# Altium integrated library Altera Stratix GX.IntLib: 96 symbols (part 29 of 44)
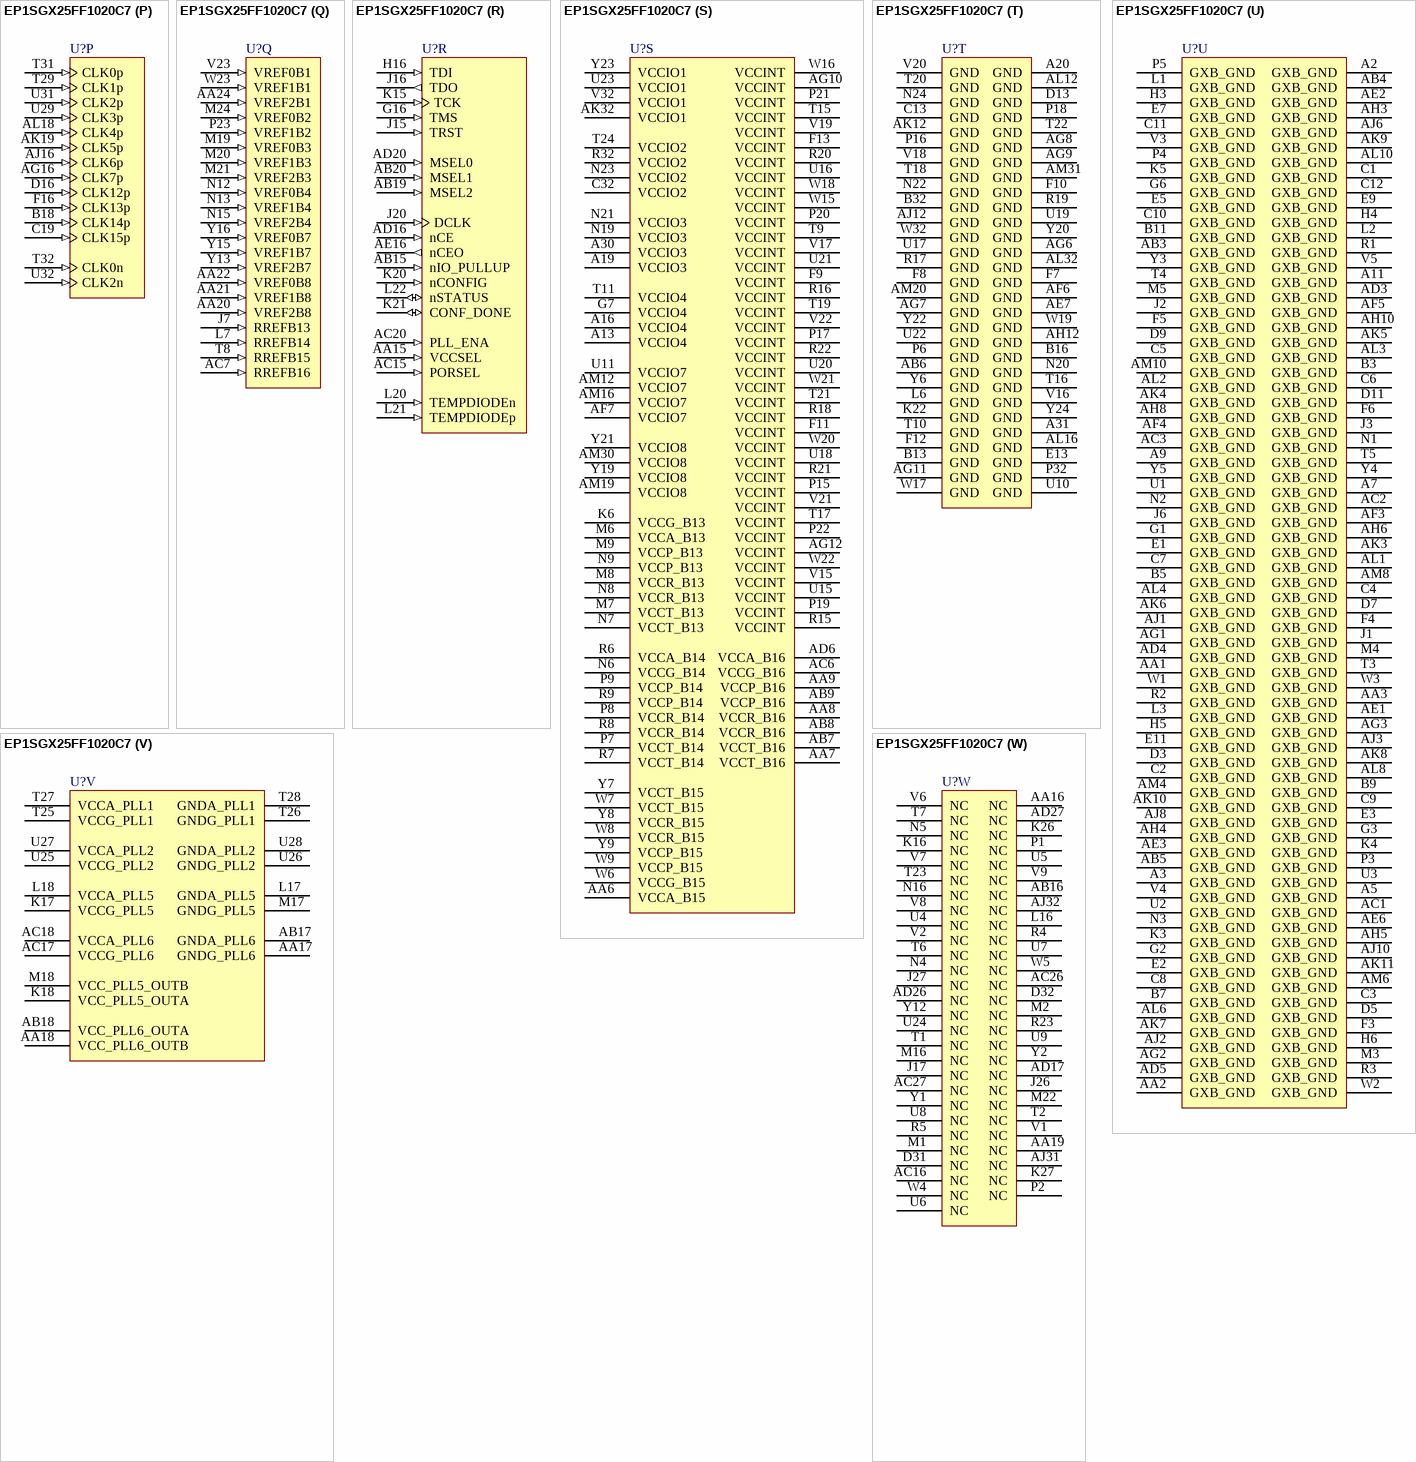
[diagram p297: symbol EP1SGX25FF1020C7]

## EP1SGX25FF1020C7
designator U?
Stratix GX 1.5V FPGA, 542 I/Os, 1020-Pin FBGA, Commercial Grade, Speed Grade 7; Published: 11-Oct-2004; LatestRevisionDate: 13-Apr-2006; LatestRevisionNote: IPC-7351 Footprint Added.; DatasheetVersion: ver1.2, Jun-2006; PackageVersion: ver15.1, May-2008; PackageReference: FBGA1020; Publisher: Altium Limited; PackageDescription: 1020-Ball FineLine Ball Grid Array (FBGA1020) - Flip Chip; Supplier 1: Digi-Key; Supplier Part Number 1: EP1SGX25FF1020C7-ND; Code_JEDEC: MS-034-AAP-1; ComponentLink1Description: Manufacturer Link; ComponentLink1URL: http://www.altera.com/products/devices/stratixgx/sgx-index.jsp; ComponentLink2Description: Handbook; ComponentLink2URL: http://www.altera.com/literature/hb/sgx/sgx_handbook.pdf; ComponentLink3Description: Packaging Specification; ComponentLink3URL: http://www.altera.com/literature/ds/dspkg.pdf
footprint FBGA1020 (BGA, 1020-Leads, Body 33x33mm, Pitch 1mm)
3D model EP1SGX25F-FBGA1020 (1020-Ball FineLine Ball Grid Array (FBGA1020) - Flip Chip)
part A pins: AA25 IO, DIFFIO_TX12p (io), AA26 IO, DIFFIO_TX12n (io), AA27 IO, DIFFIO_TX11p (io), AA28 IO, DIFFIO_TX11n (io), AB24 IO, DIFFIO_TX9p (io), AB25 IO, DIFFIO_TX9n (io), AB26 IO, DIFFIO_TX10p (io), AB27 IO, DIFFIO_TX10n (io), AB28 IO, DIFFIO_TX6p (io), AC24 IO, DIFFIO_TX8p (io), AC25 IO, DIFFIO_TX8n (io), AC28 IO, DIFFIO_TX6n (io), AD24 IO, DIFFIO_TX7p (io), AD25 IO, DIFFIO_TX7n (io), AD28 IO, DIFFIO_TX3p (io), AE24 IO, DIFFIO_TX5p (io), AE25 IO, DIFFIO_TX5n (io), AE26 IO, DIFFIO_TX4p (io), AE27 IO, DIFFIO_TX4n (io), AE28 IO, DIFFIO_TX3n (io), AF25 IO, DIFFIO_TX2p (io), AF26 IO, DIFFIO_TX2n (io), AF27 IO, DIFFIO_TX1p (io), AF28 IO, DIFFIO_TX1n (io), AG27 IO, DIFFIO_TX0p (io), AG28 IO, DIFFIO_TX0n (io), U30 IO, CLK3n (io), V24 IO, DIFFIO_TX17p (io), V25 IO, DIFFIO_TX18p (io), V26 IO, DIFFIO_TX18n (io), V27 IO, DIFFIO_TX19p (io), V28 IO, DIFFIO_TX19n (io), W24 IO, DIFFIO_TX17n (io), W25 IO, DIFFIO_TX15p (io), W26 IO, DIFFIO_TX15n (io), W27 IO, DIFFIO_TX16p (io), W28 IO, DIFFIO_TX16n (io), Y25 IO, DIFFIO_TX14p (io), Y26 IO, DIFFIO_TX14n (io), Y27 IO, DIFFIO_TX13p (io), Y28 IO, DIFFIO_TX13n (io)
part B pins: G25 IO, DIFFIO_TX37p (io), G26 IO, DIFFIO_TX37n (io), G27 IO, DIFFIO_TX38p (io), G28 IO, DIFFIO_TX38n (io), H24 IO, DIFFIO_TX34p (io), H25 IO, DIFFIO_TX34n (io), H26 IO, DIFFIO_TX35p (io), H27 IO, DIFFIO_TX35n (io), H28 IO, DIFFIO_TX36n (io), J24 IO, DIFFIO_TX32p (io), J25 IO, DIFFIO_TX32n (io), J28 IO, DIFFIO_TX36p (io), K24 IO, DIFFIO_TX31p (io), K25 IO, DIFFIO_TX31n (io), K28 IO, DIFFIO_TX33n (io), L24 IO, DIFFIO_TX30p (io), L25 IO, DIFFIO_TX30n (io), L26 IO, DIFFIO_TX29p (io), L27 IO, DIFFIO_TX29n (io), L28 IO, DIFFIO_TX33p (io), M25 IO, DIFFIO_TX28p (io), M26 IO, DIFFIO_TX28n (io), M27 IO, DIFFIO_TX27p (io), M28 IO, DIFFIO_TX27n (io), N25 IO, DIFFIO_TX26p (io), N26 IO, DIFFIO_TX26n (io), N27 IO, DIFFIO_TX25p (io), N28 IO, DIFFIO_TX25n (io), P24 IO, DIFFIO_TX23p (io), P25 IO, DIFFIO_TX24p (io), P26 IO, DIFFIO_TX24n (io), P27 IO, DIFFIO_TX22p (io), P28 IO, DIFFIO_TX22n (io), R24 IO, DIFFIO_TX23n (io), R25 IO, DIFFIO_TX20p (io), R26 IO, DIFFIO_TX20n (io), R27 IO, DIFFIO_TX21p (io), R28 IO, DIFFIO_TX21n (io), T30 IO, CLK1n (io)
part C pins: A18 IO, CLK14n (io), A21 IO, DQ6T2/DQ2T2/DQ1T2 (io), A22 IO, DQ6T3/DQ2T3/DQ1T3 (io), A23 IO, DQ7T0/DQ2T8/DQ1T8 (io), A24 IO, DQ7T4/DQ2T12/DQ1T12 (io), A25 IO, DQ8T0/DQ3T0/DQ1T16 (io), A26 IO, DQ8T3/DQ3T3/DQ1T19 (io), A27 IO, DQ9T0/DQ3T8/DQ1T24 (io), A28 IO, DQS9T/_/_ (io), A29 IO, DQ9T5/DQ3T13/DQ1T29 (io), B19 IO, CLK15n (io), B20 IO, DQ5T4/_/_ (io), B21 IO, DQS6T/DQS2T/_ (io), B22 IO, DQ6T6/DQ2T6/DQ1T6 (io), B23 IO, DQ7T1/DQ2T9/DQ1T9 (io), B24 IO, DQ7T5/DQ2T13/DQ1T13 (io), B25 IO, DQ8T1/DQ3T1/DQ1T17 (io), B26 IO, DQ8T5/DQ3T5/DQ1T21 (io), B27 IO, DQ9T1/DQ3T9/DQ1T25 (io), B28 IO, DQ9T3/DQ3T11/DQ1T27 (io), B29 IO, DQ9T6/DQ3T14/DQ1T30 (io), B30 IO (io), B31 IO (io), C20 IO, DQ5T5/_/_ (io), C21 IO, DQ6T0/DQ2T0/DQ1T0 (io), C22 IO, DQ6T4/DQ2T4/DQ1T4 (io), C23 IO, DQ7T2/DQ2T10/DQ1T10 (io), C24 IO, DQ7T6/DQ2T14/DQ1T14 (io), C25 IO, DQ8T2/DQ3T2/DQ1T18 (io), C26 IO, DQ8T6/DQ3T6/DQ1T22 (io), C27 IO, DQ9T2/DQ3T10/DQ1T26 (io), C28 IO, DQ9T4/DQ3T12/DQ1T28 (io), C29 IO, DQ9T7/DQ3T15/DQ1T31 (io), C30 IO (io), C31 IO (io), D19 IO, DQ5T3/_/_ (io), D20 IO, DQ5T6/_/_ (io), D21 IO, DQ6T1/DQ2T1/DQ1T1 (io), D22 IO, DQ6T5/DQ2T5/DQ1T5 (io), D23 IO, DQS7T/_/DQS1T (io), D24 IO, DQ7T7/DQ2T15/DQ1T15 (io), D25 IO, DQS8T/DQS3T/_ (io), D26 IO, DQ8T7/DQ3T7/DQ1T23 (io), D27 IO (io), D28 IO (io), D29 IO (io), D30 IO (io), E19 IO, DQ5T0/_/_ (io), E20 IO, DQ5T2/_/_ (io), E21 IO, DQ5T7/_/_ (io), E22 IO, DQ6T7/DQ2T7/DQ1T7 (io), E23 IO, DQ7T3/DQ2T11/DQ1T11 (io), E24 IO (io), E25 IO, DQ8T4/DQ3T4/DQ1T20 (io), E26 IO (io), E27 IO (io), E28 IO (io), E29 IO (io), E30 IO (io), F19 IO, DQ5T1/_/_ (io), F20 IO, DQS5T/_/_ (io), F21 IO, (DATA7) (io), F22 IO, (CLKUSR) (io), F23 IO (io), F24 IO (io), F25 IO (io), F26 IO (io), F27 IO (io), F28 IO (io), F29 IO (io), F30 IO (io), G20 IO, (DATA4) (io), G21 IO, RDN3 (io), G22 IO, FCLK0 (io), G23 IO (io), G24 IO (io), H20 IO, (DATA5) (io), H21 IO, RUP3 (io), H22 IO, FCLK1 (io), H23 IO (io), J21 IO, (DATA6) (io), J22 IO (io), J23 IO (io), K23 IO (io), L23 IO (io), M23 IO (io)
part D pins: A14 IO, DQ4T2/_/_ (io), A15 IO, DQ4T1/_/_ (io), B14 IO, DQS4T/_/_ (io), B15 IO, DQ4T3/_/_ (io), C14 IO, DQ4T0/_/_ (io), C15 IO, DQ4T4/_/_ (io), C16 IO, CLK12n (io), D14 IO, DQ3T1/DQ1T9/DQ0T25 (io), D15 IO, DQ4T6/_/_ (io), E14 IO, DQ3T3/DQ1T11/DQ0T27 (io), E15 IO, DQ4T7/_/_ (io), E16 IO, CLK13n (io), F14 IO, DQ3T2/DQ1T10/DQ0T26 (io), F15 IO, DQ4T5/_/_ (io), G8 IO, DQS0T/_/_ (io), G9 IO, DQ0T5/DQ0T5/DQ0T5 (io), G10 IO, DQ1T2/DQ0T10/DQ0T10 (io), G11 IO, DQ1T7/DQ0T15/DQ0T15 (io), G12 IO, DQ2T2/DQ1T2/DQ0T18 (io), G13 IO, DQ3T0/DQ1T8/DQ0T24 (io), G14 IO, DQS3T/DQS1T/_ (io), G15 IO, DQ3T6/DQ1T14/DQ0T30 (io), G17 IO (io), G18 IO (io), G19 IO, (nWS) (io), H7 IO (io), H8 IO, DQ0T6/DQ0T6/DQ0T6 (io), H9 IO, DQ0T0/DQ0T0/DQ0T0 (io), H10 IO, DQS1T/DQS0T/_ (io), H11 IO, DQ1T4/DQ0T12/DQ0T12 (io), H12 IO, DQS2T/_/DQS0T (io), H13 IO, DQ2T4/DQ1T4/DQ0T20 (io), H14 IO, DQ3T4/DQ1T12/DQ0T28 (io), H15 IO, DQ3T7/DQ1T15/DQ0T31 (io), H17 IO, (DATA0) (io), H18 IO, (DATA1) (io), H19 IO, RUP4 (io), J8 IO, DQ0T1/DQ0T1/DQ0T1 (io), J9 IO, DQ0T3/DQ0T3/DQ0T3 (io), J10 IO, DQ1T0/DQ0T8/DQ0T8 (io), J11 IO, DQ1T5/DQ0T13/DQ0T13 (io), J12 IO, DQ2T0/DQ1T0/DQ0T16 (io), J13 IO, DQ2T5/DQ1T5/DQ0T21 (io), J14 IO, DQ3T5/DQ1T13/DQ0T29 (io), J18 IO (io), J19 IO, (DATA3) (io), K7 IO (io), K8 IO, DQ0T2/DQ0T2/DQ0T2 (io), K9 IO, DQ0T4/DQ0T4/DQ0T4 (io), K10 IO, DQ1T1/DQ0T9/DQ0T9 (io), K11 IO, DQ1T3/DQ0T11/DQ0T11 (io), K12 IO, DQ2T1/DQ1T1/DQ0T17 (io), K13 IO, DQ2T7/DQ1T7/DQ0T23 (io), K14 IO, RDN4 (io), K19 IO (io), L8 IO (io), L9 IO, DQ0T7/DQ0T7/DQ0T7 (io), L10 IO (io), L11 IO, DQ1T6/DQ0T14/DQ0T14 (io), L12 IO, DQ2T3/DQ1T3/DQ0T19 (io), L13 IO, DQ2T6/DQ1T6/DQ0T22 (io), L14 IO (io), L15 IO (io), L19 IO, (DATA2) (io), M10 IO (io), M11 IO (io), M12 IO (io), M13 IO, FCLK6 (io), M14 IO, DEV_OE (io), M15 IO (io), N10 IO (io), N11 IO (io), N14 IO (io), N17 IO (io), N18 IO (io), P10 IO (io), P11 IO (io), P12 IO (io), P13 IO (io), P14 IO (io), R10 IO (io), R11 IO (io), R12 IO (io), R13 IO (io), R14 IO (io), T12 IO (io), T13 IO (io), T14 IO, FCLK7 (io), U12 IO (io)
part E pins: AA10 IO (io), AA11 IO (io), AA12 IO (io), AA13 IO (io), AA14 IO (io), AB10 IO (io), AB11 IO, DQ1B6/DQ0B14/DQ0B14 (io), AB12 IO, DQ1B5/DQ0B13/DQ0B13 (io), AB13 IO, DQ2B3/DQ1B3/DQ0B19 (io), AB14 IO (io), AC8 IO, DQ0B4/DQ0B4/DQ0B4 (io), AC9 IO, DQ0B7/DQ0B7/DQ0B7 (io), AC10 IO, DQ1B1/DQ0B9/DQ0B9 (io), AC11 IO, DQ1B3/DQ0B11/DQ0B11 (io), AC12 IO, DQ2B1/DQ1B1/DQ0B17 (io), AC13 IO, DQ2B6/DQ1B6/DQ0B22 (io), AC14 IO, RDN7 (io), AC19 IO (io), AD7 IO (io), AD8 IO, DQ0B2/DQ0B2/DQ0B2 (io), AD9 IO, DQ0B1/DQ0B1/DQ0B1 (io), AD10 IO, DQ1B0/DQ0B8/DQ0B8 (io), AD11 IO, DQS1B/DQS0B/_ (io), AD12 IO, DQ2B0/DQ1B0/DQ0B16 (io), AD13 IO, DQ2B7/DQ1B7/DQ0B23 (io), AD14 IO, DEV_CLRn (io), AD15 IO (io), AD18 IO, (PGM0) (io), AD19 IO, (INIT_DONE) (io), AE8 IO, DQ0B3/DQ0B3/DQ0B3 (io), AE9 IO, DQ0B0/DQ0B0/DQ0B0 (io), AE10 IO, DQ1B2/DQ0B10/DQ0B10 (io), AE11 IO, DQ1B4/DQ0B12/DQ0B12 (io), AE12 IO, DQS2B/_/DQS0B (io), AE13 IO, DQ2B5/DQ1B5/DQ0B21 (io), AE14 IO (io), AE15 IO (io), AE17 IO, (nRS) (io), AE18 IO (io), AE19 IO (io), AF8 IO, DQ0B6/DQ0B6/DQ0B6 (io), AF9 IO, DQS0B/_/_ (io), AF10 IO, DQ0B5/DQ0B5/DQ0B5 (io), AF11 IO, DQ1B7/DQ0B15/DQ0B15 (io), AF12 IO, DQ2B2/DQ1B2/DQ0B18 (io), AF13 IO, DQ2B4/DQ1B4/DQ0B20 (io), AF14 IO (io), AF15 IO, FCLK5 (io), AF16 IO (io), AF17 IO, (PGM1) (io), AF18 IO, (RUnLU) (io), AF19 IO, RUP7 (io), AG13 IO, DQ3B0/DQ1B8/DQ0B24 (io), AG14 IO, DQ3B7/DQ1B15/DQ0B31 (io), AG15 IO, DQ4B7/_/_ (io), AH13 IO, DQS3B/DQS1B/_ (io), AH14 IO, DQ3B6/DQ1B14/DQ0B30 (io), AH15 IO, DQ4B5/_/_ (io), AH16 IO, CLK7n (io), AJ13 IO, DQ3B2/DQ1B10/DQ0B26 (io), AJ14 IO, DQ3B3/DQ1B11/DQ0B27 (io), AJ15 IO, DQ4B6/_/_ (io), AK13 IO, DQ3B1/DQ1B9/DQ0B25 (io), AK14 IO, DQ4B0/_/_ (io), AK15 IO, DQ4B4/_/_ (io), AK16 IO, CLK6n (io), AL13 IO, DQ3B5/DQ1B13/DQ0B29 (io), AL14 IO, DQS4B/_/_ (io), AL15 IO, DQ4B3/_/_ (io), AM13 IO, DQ3B4/DQ1B12/DQ0B28 (io), AM14 IO, DQ4B2/_/_ (io), AM15 IO, DQ4B1/_/_ (io), U13 IO (io), U14 IO, FCLK4 (io), V10 IO (io), V11 IO (io), V12 IO (io), V13 IO (io), V14 IO (io), W10 IO (io), W11 IO (io), W12 IO (io), W13 IO (io), W14 IO (io), Y10 IO (io), Y11 IO (io), Y14 IO (io), Y17 IO (io), Y18 IO (io)
part F pins: AA23 IO (io), AB21 IO, (nCS) (io), AB22 IO (io), AB23 IO (io), AC21 IO, (RDYnBSY) (io), AC22 IO (io), AC23 IO (io), AD21 IO, RDN8 (io), AD22 IO (io), AD23 IO (io), AE20 IO, (CS) (io), AE21 IO (io), AE22 IO, FCLK3 (io), AE23 IO (io), AF20 IO, RUP8 (io), AF21 IO, (PGM2) (io), AF22 IO, FCLK2 (io), AF23 IO (io), AF24 IO (io), AG19 IO, DQ5B1/_/_ (io), AG20 IO, DQS5B/_/_ (io), AG21 IO (io), AG22 IO (io), AG23 IO (io), AG24 IO (io), AG25 IO (io), AG26 IO (io), AH19 IO, DQ5B0/_/_ (io), AH20 IO, DQ5B2/_/_ (io), AH21 IO, DQ5B7/_/_ (io), AH22 IO, DQ6B7/DQ2B7/DQ1B7 (io), AH23 IO, DQ7B3/DQ2B11/DQ1B11 (io), AH24 IO (io), AH25 IO, DQ8B4/DQ3B4/DQ1B20 (io), AH26 IO (io), AH27 IO (io), AH28 IO (io), AH29 IO (io), AH30 IO (io), AJ19 IO, DQ5B3/_/_ (io), AJ20 IO, DQ5B6/_/_ (io), AJ21 IO, DQ6B1/DQ2B1/DQ1B1 (io), AJ22 IO, DQ6B5/DQ2B5/DQ1B5 (io), AJ23 IO, DQS7B/_/DQS1B (io), AJ24 IO, DQ7B7/DQ2B15/DQ1B15 (io), AJ25 IO, DQS8B/DQS3B/_ (io), AJ26 IO, DQ8B7/DQ3B7/DQ1B23 (io), AJ27 IO (io), AJ28 IO (io), AJ29 IO (io), AJ30 IO (io), AK20 IO, DQ5B5/_/_ (io), AK21 IO, DQ6B0/DQ2B0/DQ1B0 (io), AK22 IO, DQ6B4/DQ2B4/DQ1B4 (io), AK23 IO, DQ7B2/DQ2B10/DQ1B10 (io), AK24 IO, DQ7B6/DQ2B14/DQ1B14 (io), AK25 IO, DQ8B2/DQ3B2/DQ1B18 (io), AK26 IO, DQ8B6/DQ3B6/DQ1B22 (io), AK27 IO, DQ9B2/DQ3B10/DQ1B26 (io), AK28 IO, DQ9B4/DQ3B12/DQ1B28 (io), AK29 IO, DQ9B7/DQ3B15/DQ1B31 (io), AK30 IO (io), AK31 IO (io), AL19 IO, CLK5n (io), AL20 IO, DQ5B4/_/_ (io), AL21 IO, DQS6B/DQS2B/_ (io), AL22 IO, DQ6B6/DQ2B6/DQ1B6 (io), AL23 IO, DQ7B1/DQ2B9/DQ1B9 (io), AL24 IO, DQ7B5/DQ2B13/DQ1B13 (io), AL25 IO, DQ8B1/DQ3B1/DQ1B17 (io), AL26 IO, DQ8B5/DQ3B5/DQ1B21 (io), AL27 IO, DQ9B1/DQ3B9/DQ1B25 (io), AL28 IO, DQ9B3/DQ3B11/DQ1B27 (io), AL29 IO, DQ9B6/DQ3B14/DQ1B30 (io), AL30 IO (io), AL31 IO (io), AM18 IO, CLK4n (io), AM21 IO, DQ6B2/DQ2B2/DQ1B2 (io), AM22 IO, DQ6B3/DQ2B3/DQ1B3 (io), AM23 IO, DQ7B0/DQ2B8/DQ1B8 (io), AM24 IO, DQ7B4/DQ2B12/DQ1B12 (io), AM25 IO, DQ8B0/DQ3B0/DQ1B16 (io), AM26 IO, DQ8B3/DQ3B3/DQ1B19 (io), AM27 IO, DQ9B0/DQ3B8/DQ1B24 (io), AM28 IO, DQS9B/_/_ (io), AM29 IO, DQ9B5/DQ3B13/DQ1B29 (io)
part G pins: C17 IO, PLL5_OUT1n (io), D17 IO, PLL5_OUT1p (io), E17 IO, PLL5_FBn (io), E18 IO, PLL5_OUT0n (io), F17 IO, PLL5_FBp (io), F18 IO, PLL5_OUT0p (io)
part H pins: A17 IO, PLL5_OUT2n (io), B17 IO, PLL5_OUT2p (io), C18 IO, PLL5_OUT3n (io), D18 IO, PLL5_OUT3p (io)
part I pins: AG17 IO, PLL6_FBp (io), AH17 IO, PLL6_FBn (io), AJ17 IO, PLL6_OUT1p (io), AK17 IO, PLL6_OUT1n (io), AL17 IO, PLL6_OUT0p (io), AM17 IO, PLL6_OUT0n (io)
part J pins: AG18 IO, PLL6_OUT3p (io), AH18 IO, PLL6_OUT3n (io), AJ18 IO, PLL6_OUT2p (io), AK18 IO, PLL6_OUT2n (io)
part K pins: A4 GXB_RX3p (in), A6 GXB_RX2p (in), A8 REFCLKB13p (in), A10 GXB_RX0p (in), A12 GXB_RX1p (in), B4 GXB_RX3n (in), B6 GXB_RX2n (in), B8 REFCLKB13n (in), B10 GXB_RX0n (in), B12 GXB_RX1n (in), D6 GXB_TX3p (out), D8 GXB_TX2p (out), D10 GXB_TX0p (out), D12 GXB_TX1p (out), E6 GXB_TX3n (out), E8 GXB_TX2n (out), E10 GXB_TX0n (out), E12 GXB_TX1n (out)
part L pins: B1 GXB_RX5p (in), B2 GXB_RX5n (in), D1 GXB_RX4p (in), D2 GXB_RX4n (in), D4 GXB_TX5p (out), E4 GXB_TX5n (out), F1 REFCLKB14p (in), F2 REFCLKB14n (in), G4 GXB_TX4p (out), G5 GXB_TX4n (out), H1 GXB_RX6p (in), H2 GXB_RX6n (in), J4 GXB_TX6p (out), J5 GXB_TX6n (out), K1 GXB_RX7p (in), K2 GXB_RX7n (in), L4 GXB_TX7p (out), L5 GXB_TX7n (out)
part M pins: AA4 GXB_TX9p (out), AA5 GXB_TX9n (out), AB1 GXB_RX9p (in), AB2 GXB_RX9n (in), AC4 GXB_TX8p (out), AC5 GXB_TX8n (out), AD1 GXB_RX8p (in), AD2 GXB_RX8n (in), AE4 GXB_TX10p (out), AE5 GXB_TX10n (out), AF1 REFCLKB15p (in), AF2 REFCLKB15n (in), AG4 GXB_TX11p (out), AG5 GXB_TX11n (out), AH1 GXB_RX10p (in), AH2 GXB_RX10n (in), AK1 GXB_RX11p (in), AK2 GXB_RX11n (in)
part N pins: AH7 GXB_TX12n (out), AH9 GXB_TX14n (out), AH11 GXB_TX15n (out), AJ4 GXB_TX13p (out), AJ5 GXB_TX13n (out), AJ7 GXB_TX12p (out), AJ9 GXB_TX14p (out), AJ11 GXB_TX15p (out), AL5 GXB_RX12n (in), AL7 REFCLKB16n (in), AL9 GXB_RX14n (in), AL11 GXB_RX15n (in), AM2 GXB_RX13p (in), AM3 GXB_RX13n (in), AM5 GXB_RX12p (in), AM7 REFCLKB16p (in), AM9 GXB_RX14p (in), AM11 GXB_RX15p (in)
part O pins: AA29 INPUT, DIFFIO_RX11p (in), AA30 INPUT, DIFFIO_RX11n (in), AA31 INPUT, DIFFIO_RX15p (in), AA32 INPUT, DIFFIO_RX15n (in), AB29 INPUT, DIFFIO_RX10p/RUP1 (in), AB30 INPUT, DIFFIO_RX10n/RDN1 (in), AB31 INPUT, DIFFIO_RX12p (in), AB32 INPUT, DIFFIO_RX12n (in), AC29 INPUT, DIFFIO_RX9p (in), AC30 INPUT, DIFFIO_RX9n (in), AC31 INPUT, DIFFIO_RX14p (in), AC32 INPUT, DIFFIO_RX14n (in), AD29 INPUT, DIFFIO_RX5p (in), AD30 INPUT, DIFFIO_RX5n (in), AD31 INPUT, DIFFIO_RX8p (in), AD32 INPUT, DIFFIO_RX8n (in), AE29 INPUT, DIFFIO_RX6p (in), AE30 INPUT, DIFFIO_RX6n (in), AE31 INPUT, DIFFIO_RX7p (in), AE32 INPUT, DIFFIO_RX7n (in), AF29 INPUT, DIFFIO_RX4p (in), AF30 INPUT, DIFFIO_RX4n (in), AF31 INPUT, DIFFIO_RX3p (in), AF32 INPUT, DIFFIO_RX3n (in), AG29 INPUT, DIFFIO_RX1p (in), AG30 INPUT, DIFFIO_RX1n (in), AG31 INPUT, DIFFIO_RX2p (in), AG32 INPUT, DIFFIO_RX2n (in), AH31 INPUT, DIFFIO_RX0p (in), AH32 INPUT, DIFFIO_RX0n (in), E31 INPUT, DIFFIO_RX38p (in), E32 INPUT, DIFFIO_RX38n (in), F31 INPUT, DIFFIO_RX37p (in), F32 INPUT, DIFFIO_RX37n (in), G29 INPUT, DIFFIO_RX36p (in), G30 INPUT, DIFFIO_RX36n (in), G31 INPUT, DIFFIO_RX35p (in), G32 INPUT, DIFFIO_RX35n (in), H29 INPUT, DIFFIO_RX34p (in), H30 INPUT, DIFFIO_RX34n (in), H31 INPUT, DIFFIO_RX32p (in), H32 INPUT, DIFFIO_RX32n (in), J29 INPUT, DIFFIO_RX30p (in), J30 INPUT, DIFFIO_RX30n (in), J31 INPUT, DIFFIO_RX31p (in), J32 INPUT, DIFFIO_RX31n (in), K29 INPUT, DIFFIO_RX33p (in), K30 INPUT, DIFFIO_RX33n (in), K31 INPUT, DIFFIO_RX25p (in), K32 INPUT, DIFFIO_RX25n (in), L29 INPUT, DIFFIO_RX29p/RUP2 (in), L30 INPUT, DIFFIO_RX29n/RDN2 (in), L31 INPUT, DIFFIO_RX28p (in), L32 INPUT, DIFFIO_RX28n (in), M29 INPUT, DIFFIO_RX27p (in), M30 INPUT, DIFFIO_RX27n (in), M31 INPUT, DIFFIO_RX24p (in), M32 INPUT, DIFFIO_RX24n (in), N29 INPUT, DIFFIO_RX26p (in), N30 INPUT, DIFFIO_RX26n (in), N31 INPUT, DIFFIO_RX22p (in), N32 INPUT, DIFFIO_RX22n (in), P29 INPUT, DIFFIO_RX23p (in), P30 INPUT, DIFFIO_RX23n (in), P31 INPUT, DIFFIO_RX21p (in), R29 INPUT, DIFFIO_RX20p (in), R30 INPUT, DIFFIO_RX20n (in), R31 INPUT, DIFFIO_RX21n (in), V29 INPUT, DIFFIO_RX19p (in), V30 INPUT, DIFFIO_RX19n (in), V31 INPUT, DIFFIO_RX18p (in), W29 INPUT, DIFFIO_RX16p (in), W30 INPUT, DIFFIO_RX16n (in), W31 INPUT, DIFFIO_RX18n (in), Y29 INPUT, DIFFIO_RX13p (in), Y30 INPUT, DIFFIO_RX13n (in), Y31 INPUT, DIFFIO_RX17p (in), Y32 INPUT, DIFFIO_RX17n (in)
part P pins: AG16 CLK7p (in), AJ16 CLK6p (in), AK19 CLK5p (in), AL18 CLK4p (in), B18 CLK14p (in), C19 CLK15p (in), D16 CLK12p (in), F16 CLK13p (in), T29 CLK1p (in), T31 CLK0p (in), T32 CLK0n (in), U29 CLK3p (in), U31 CLK2p (in), U32 CLK2n (in)
part Q pins: AA20 VREF2B8 (in), AA21 VREF1B8 (in), AA22 VREF0B8 (in), AA24 VREF2B1 (in), AC7 RREFB16 (in), J7 RREFB13 (in), L7 RREFB14 (in), M19 VREF0B3 (in), M20 VREF1B3 (in), M21 VREF2B3 (in), M24 VREF0B2 (in), N12 VREF0B4 (in), N13 VREF1B4 (in), N15 VREF2B4 (in), P23 VREF1B2 (in), T8 RREFB15 (in), V23 VREF0B1 (in), W23 VREF1B1 (in), Y13 VREF2B7 (in), Y15 VREF1B7 (in), Y16 VREF0B7 (in)
part R pins: AA15 VCCSEL (in), AB15 nIO_PULLUP (in), AB19 MSEL2 (in), AB20 MSEL1 (in), AC15 PORSEL (in), AC20 PLL_ENA (in), AD16 nCE (in), AD20 MSEL0 (in), AE16 nCEO (out), G16 TMS (in), H16 TDI (in), J15 TRST (in), J16 TDO (out), J20 DCLK (in), K15 TCK (in), K20 nCONFIG (in), K21 CONF_DONE (io), L20 TEMPDIODEn (in), L21 TEMPDIODEp (in), L22 nSTATUS (io)
part S pins: A13 VCCIO4 (power), A16 VCCIO4 (power), A19 VCCIO3 (power), A30 VCCIO3 (power), AA6 VCCA_B15 (power), AA7 VCCT_B16 (power), AA8 VCCR_B16 (power), AA9 VCCP_B16 (power), AB7 VCCT_B16 (power), AB8 VCCR_B16 (power), AB9 VCCP_B16 (power), AC6 VCCG_B16 (power), AD6 VCCA_B16 (power), AF7 VCCIO7 (power), AG10 VCCINT (power), AG12 VCCINT (power), AK32 VCCIO1 (power), AM12 VCCIO7 (power), AM16 VCCIO7 (power), AM19 VCCIO8 (power), AM30 VCCIO8 (power), C32 VCCIO2 (power), F9 VCCINT (power), F11 VCCINT (power), F13 VCCINT (power), G7 VCCIO4 (power), K6 VCCG_B13 (power), M6 VCCA_B13 (power), M7 VCCT_B13 (power), M8 VCCR_B13 (power), M9 VCCP_B13 (power), N6 VCCG_B14 (power), N7 VCCT_B13 (power), N8 VCCR_B13 (power), N9 VCCP_B13 (power), N19 VCCIO3 (power), N21 VCCIO3 (power), N23 VCCIO2 (power), P7 VCCT_B14 (power), P8 VCCR_B14 (power), P9 VCCP_B14 (power), P15 VCCINT (power), P17 VCCINT (power), P19 VCCINT (power), P20 VCCINT (power), P21 VCCINT (power), P22 VCCINT (power), R6 VCCA_B14 (power), R7 VCCT_B14 (power), R8 VCCR_B14 (power), R9 VCCP_B14 (power), R15 VCCINT (power), R16 VCCINT (power), R18 VCCINT (power), R20 VCCINT (power), R21 VCCINT (power), R22 VCCINT (power), R32 VCCIO2 (power), T9 VCCINT (power), T11 VCCIO4 (power), T15 VCCINT (power), T17 VCCINT (power), T19 VCCINT (power), T21 VCCINT (power), T24 VCCIO2 (power), U11 VCCIO7 (power), U15 VCCINT (power), U16 VCCINT (power), U18 VCCINT (power), U20 VCCINT (power), U21 VCCINT (power), U23 VCCIO1 (power), V15 VCCINT (power), V17 VCCINT (power), V19 VCCINT (power), V21 VCCINT (power), V22 VCCINT (power), V32 VCCIO1 (power), W6 VCCG_B15 (power), W7 VCCT_B15 (power), W8 VCCR_B15 (power), W9 VCCP_B15 (power), W15 VCCINT (power), W16 VCCINT (power), W18 VCCINT (power), W20 VCCINT (power), W21 VCCINT (power), W22 VCCINT (power), Y7 VCCT_B15 (power), Y8 VCCR_B15 (power), Y9 VCCP_B15 (power), Y19 VCCIO8 (power), Y21 VCCIO8 (power), Y23 VCCIO1 (power)
part T pins: A20 GND (power), A31 GND (power), AB6 GND (power), AE7 GND (power), AF6 GND (power), AG6 GND (power), AG7 GND (power), AG8 GND (power), AG9 GND (power), AG11 GND (power), AH12 GND (power), AJ12 GND (power), AK12 GND (power), AL12 GND (power), AL16 GND (power), AL32 GND (power), AM20 GND (power), AM31 GND (power), B13 GND (power), B16 GND (power), B32 GND (power), C13 GND (power), D13 GND (power), E13 GND (power), F7 GND (power), F8 GND (power), F10 GND (power), F12 GND (power), K22 GND (power), L6 GND (power), N20 GND (power), N22 GND (power), N24 GND (power), P6 GND (power), P16 GND (power), P18 GND (power), P32 GND (power), R17 GND (power), R19 GND (power), T10 GND (power), T16 GND (power), T18 GND (power), T20 GND (power), T22 GND (power), U10 GND (power), U17 GND (power), U19 GND (power), U22 GND (power), V16 GND (power), V18 GND (power), V20 GND (power), W17 GND (power), W19 GND (power), W32 GND (power), Y6 GND (power), Y20 GND (power), Y22 GND (power), Y24 GND (power)
part U pins: A2 GXB_GND (power), A3 GXB_GND (power), A5 GXB_GND (power), A7 GXB_GND (power), A9 GXB_GND (power), A11 GXB_GND (power), AA1 GXB_GND (power), AA2 GXB_GND (power), AA3 GXB_GND (power), AB3 GXB_GND (power), AB4 GXB_GND (power), AB5 GXB_GND (power), AC1 GXB_GND (power), AC2 GXB_GND (power), AC3 GXB_GND (power), AD3 GXB_GND (power), AD4 GXB_GND (power), AD5 GXB_GND (power), AE1 GXB_GND (power), AE2 GXB_GND (power), AE3 GXB_GND (power), AE6 GXB_GND (power), AF3 GXB_GND (power), AF4 GXB_GND (power), AF5 GXB_GND (power), AG1 GXB_GND (power), AG2 GXB_GND (power), AG3 GXB_GND (power), AH3 GXB_GND (power), AH4 GXB_GND (power), AH5 GXB_GND (power), AH6 GXB_GND (power), AH8 GXB_GND (power), AH10 GXB_GND (power), AJ1 GXB_GND (power), AJ2 GXB_GND (power), AJ3 GXB_GND (power), AJ6 GXB_GND (power), AJ8 GXB_GND (power), AJ10 GXB_GND (power), AK3 GXB_GND (power), AK4 GXB_GND (power), AK5 GXB_GND (power), AK6 GXB_GND (power), AK7 GXB_GND (power), AK8 GXB_GND (power), AK9 GXB_GND (power), AK10 GXB_GND (power), AK11 GXB_GND (power), AL1 GXB_GND (power), AL2 GXB_GND (power), AL3 GXB_GND (power), AL4 GXB_GND (power), AL6 GXB_GND (power), AL8 GXB_GND (power), AL10 GXB_GND (power), AM4 GXB_GND (power), AM6 GXB_GND (power), AM8 GXB_GND (power), AM10 GXB_GND (power), B3 GXB_GND (power), B5 GXB_GND (power), B7 GXB_GND (power), B9 GXB_GND (power), B11 GXB_GND (power), C1 GXB_GND (power), C2 GXB_GND (power), C3 GXB_GND (power), C4 GXB_GND (power), C5 GXB_GND (power), C6 GXB_GND (power), C7 GXB_GND (power), C8 GXB_GND (power), C9 GXB_GND (power), C10 GXB_GND (power), C11 GXB_GND (power), C12 GXB_GND (power), D3 GXB_GND (power), D5 GXB_GND (power), D7 GXB_GND (power), D9 GXB_GND (power), D11 GXB_GND (power), E1 GXB_GND (power), E2 GXB_GND (power), E3 GXB_GND (power), E5 GXB_GND (power), E7 GXB_GND (power), E9 GXB_GND (power), E11 GXB_GND (power), F3 GXB_GND (power), F4 GXB_GND (power), F5 GXB_GND (power), F6 GXB_GND (power), G1 GXB_GND (power), G2 GXB_GND (power), G3 GXB_GND (power), G6 GXB_GND (power), H3 GXB_GND (power), H4 GXB_GND (power), H5 GXB_GND (power), H6 GXB_GND (power), J1 GXB_GND (power), J2 GXB_GND (power), J3 GXB_GND (power), J6 GXB_GND (power), K3 GXB_GND (power), K4 GXB_GND (power), K5 GXB_GND (power), L1 GXB_GND (power), L2 GXB_GND (power), L3 GXB_GND (power), M3 GXB_GND (power), M4 GXB_GND (power), M5 GXB_GND (power), N1 GXB_GND (power), N2 GXB_GND (power), N3 GXB_GND (power), P3 GXB_GND (power), P4 GXB_GND (power), P5 GXB_GND (power), R1 GXB_GND (power), R2 GXB_GND (power), R3 GXB_GND (power), T3 GXB_GND (power), T4 GXB_GND (power), T5 GXB_GND (power), U1 GXB_GND (power), U2 GXB_GND (power), U3 GXB_GND (power), V3 GXB_GND (power), V4 GXB_GND (power), V5 GXB_GND (power), W1 GXB_GND (power), W2 GXB_GND (power), W3 GXB_GND (power), Y3 GXB_GND (power), Y4 GXB_GND (power), Y5 GXB_GND (power)
part V pins: AA17 GNDG_PLL6 (power), AA18 VCC_PLL6_OUTB (power), AB17 GNDA_PLL6 (power), AB18 VCC_PLL6_OUTA (power), AC17 VCCG_PLL6 (power), AC18 VCCA_PLL6 (power), K17 VCCG_PLL5 (power), K18 VCC_PLL5_OUTA (power), L17 GNDA_PLL5 (power), L18 VCCA_PLL5 (power), M17 GNDG_PLL5 (power), M18 VCC_PLL5_OUTB (power), T25 VCCG_PLL1 (power), T26 GNDG_PLL1 (power), T27 VCCA_PLL1 (power), T28 GNDA_PLL1 (power), U25 VCCG_PLL2 (power), U26 GNDG_PLL2 (power), U27 VCCA_PLL2 (power), U28 GNDA_PLL2 (power)
part W pins: AA16 NC, AA19 NC, AB16 NC, AC16 NC, AC26 NC, AC27 NC, AD17 NC, AD26 NC, AD27 NC, AJ31 NC, AJ32 NC, D31 NC, D32 NC, J17 NC, J26 NC, J27 NC, K16 NC, K26 NC, K27 NC, L16 NC, M1 NC, M2 NC, M16 NC, M22 NC, N4 NC, N5 NC, N16 NC, P1 NC, P2 NC, R4 NC, R5 NC, R23 NC, T1 NC, T2 NC, T6 NC, T7 NC, T23 NC, U4 NC, U5 NC, U6 NC, U7 NC, U8 NC, U9 NC, U24 NC, V1 NC, V2 NC, V6 NC, V7 NC, V8 NC, V9 NC, W4 NC, W5 NC, Y1 NC, Y2 NC, Y12 NC
part A text: BANK 1
part B text: BANK 2
part C text: BANK 3
part D text: BANK 4
part E text: BANK 7
part F text: BANK 8
part G text: BANK 9
part H text: BANK 10
part I text: BANK 11
part J text: BANK 12
part K text: BANK 13
part L text: BANK 14
part M text: BANK 15
part N text: BANK 16

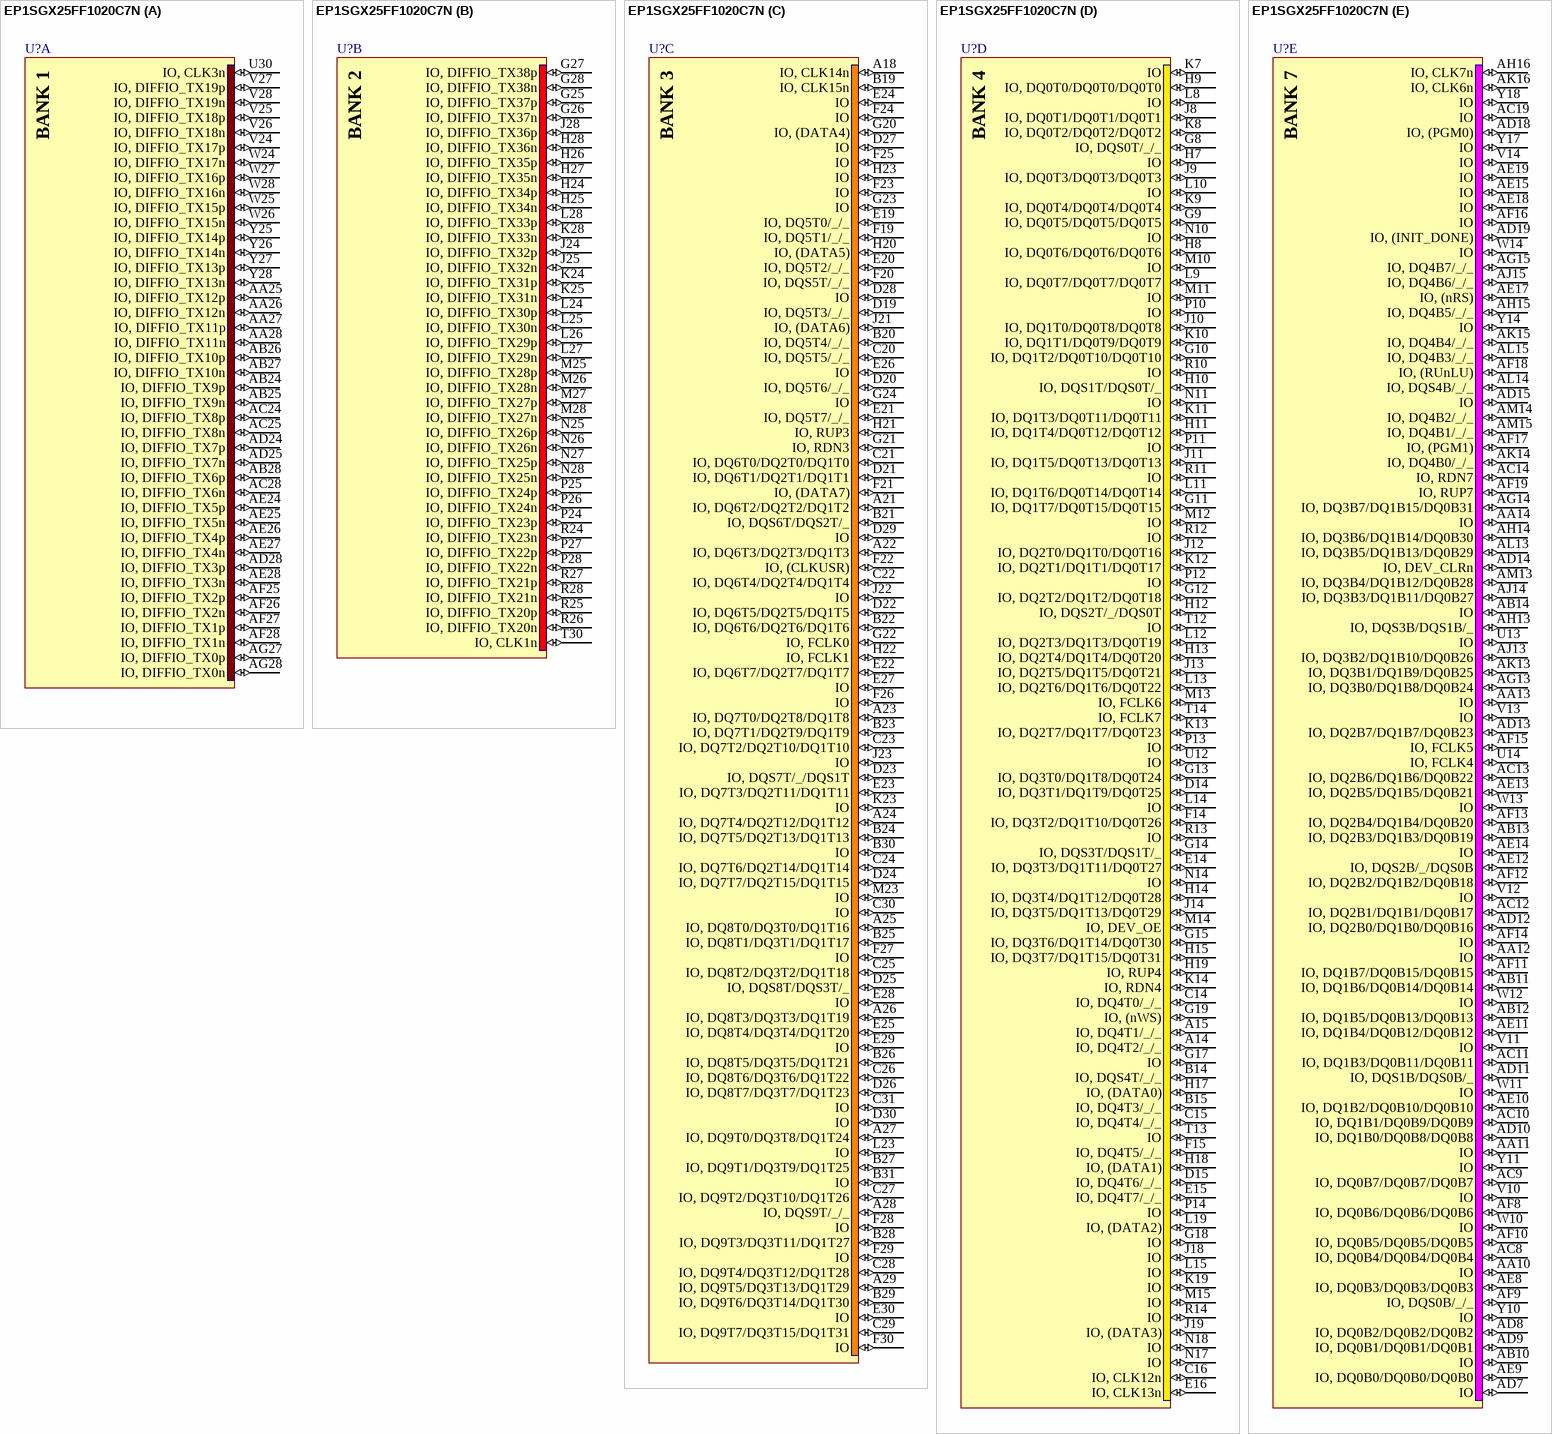
[diagram p155: symbol EP1SGX25FF1020C7N]

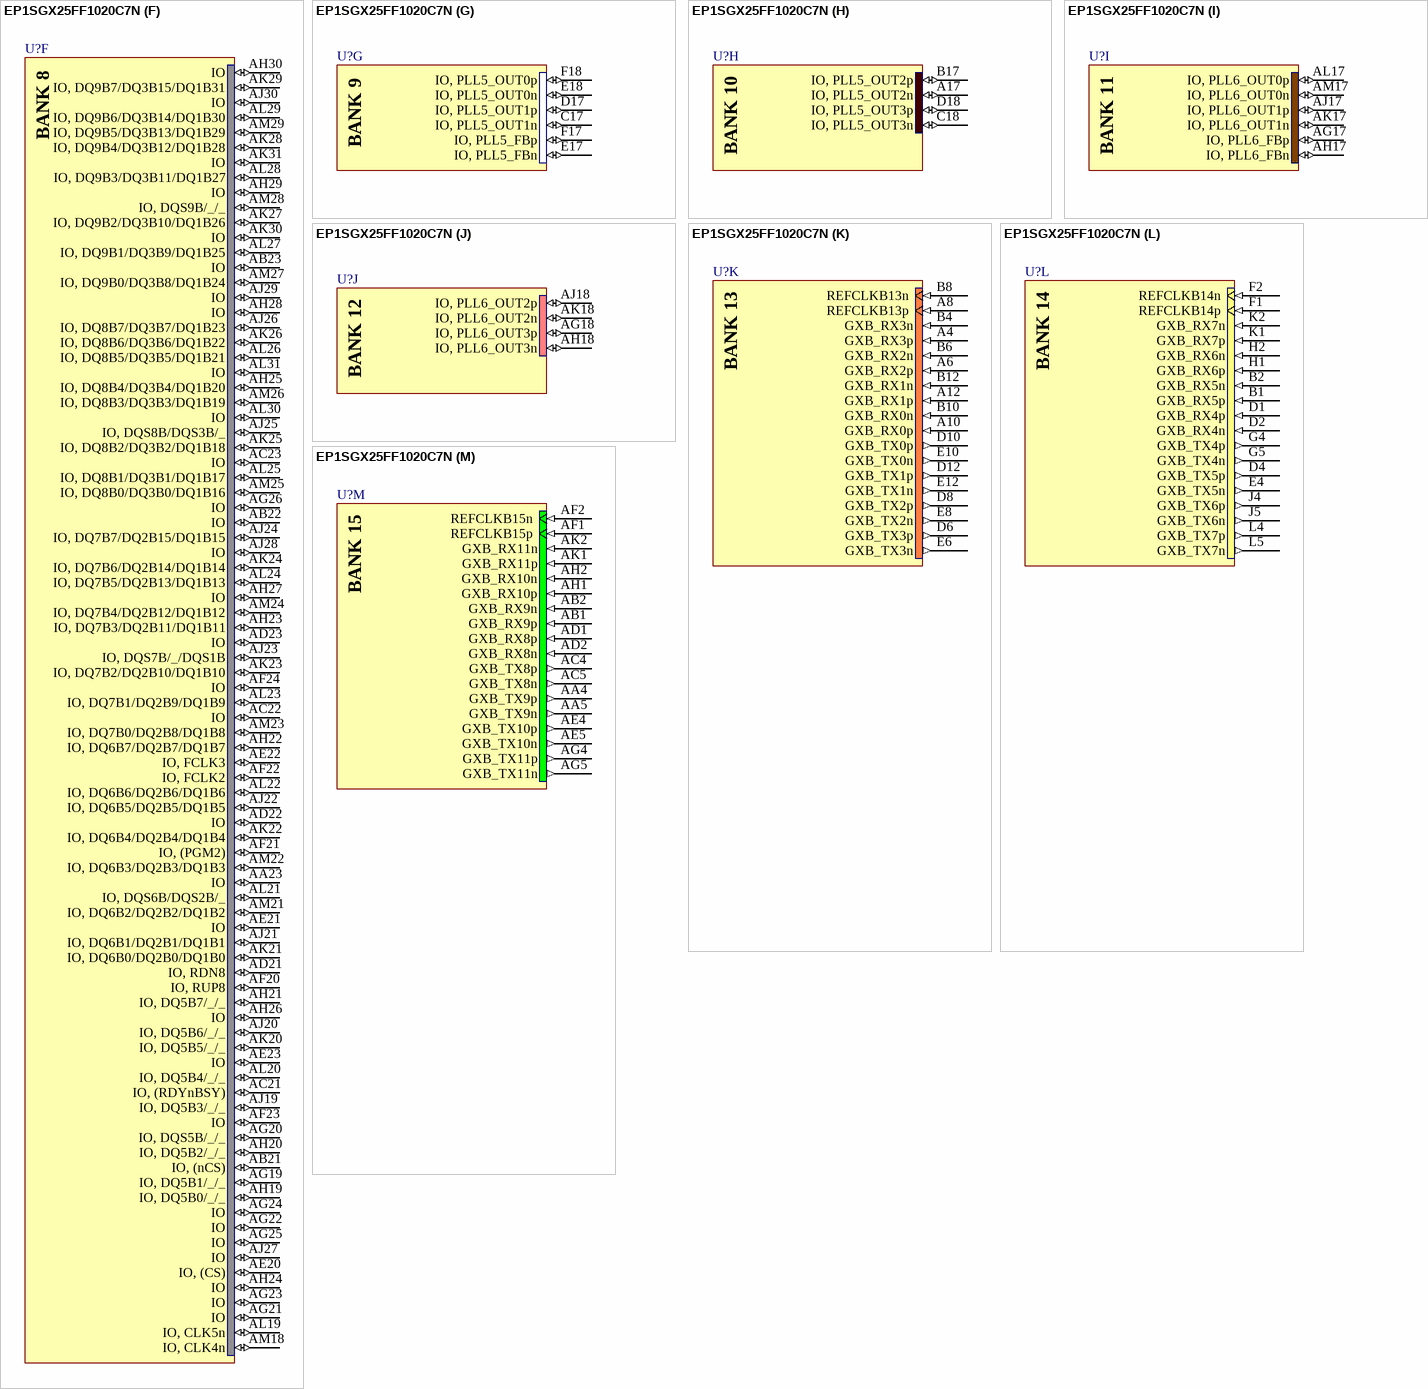
[diagram p156: symbol EP1SGX25FF1020C7N]

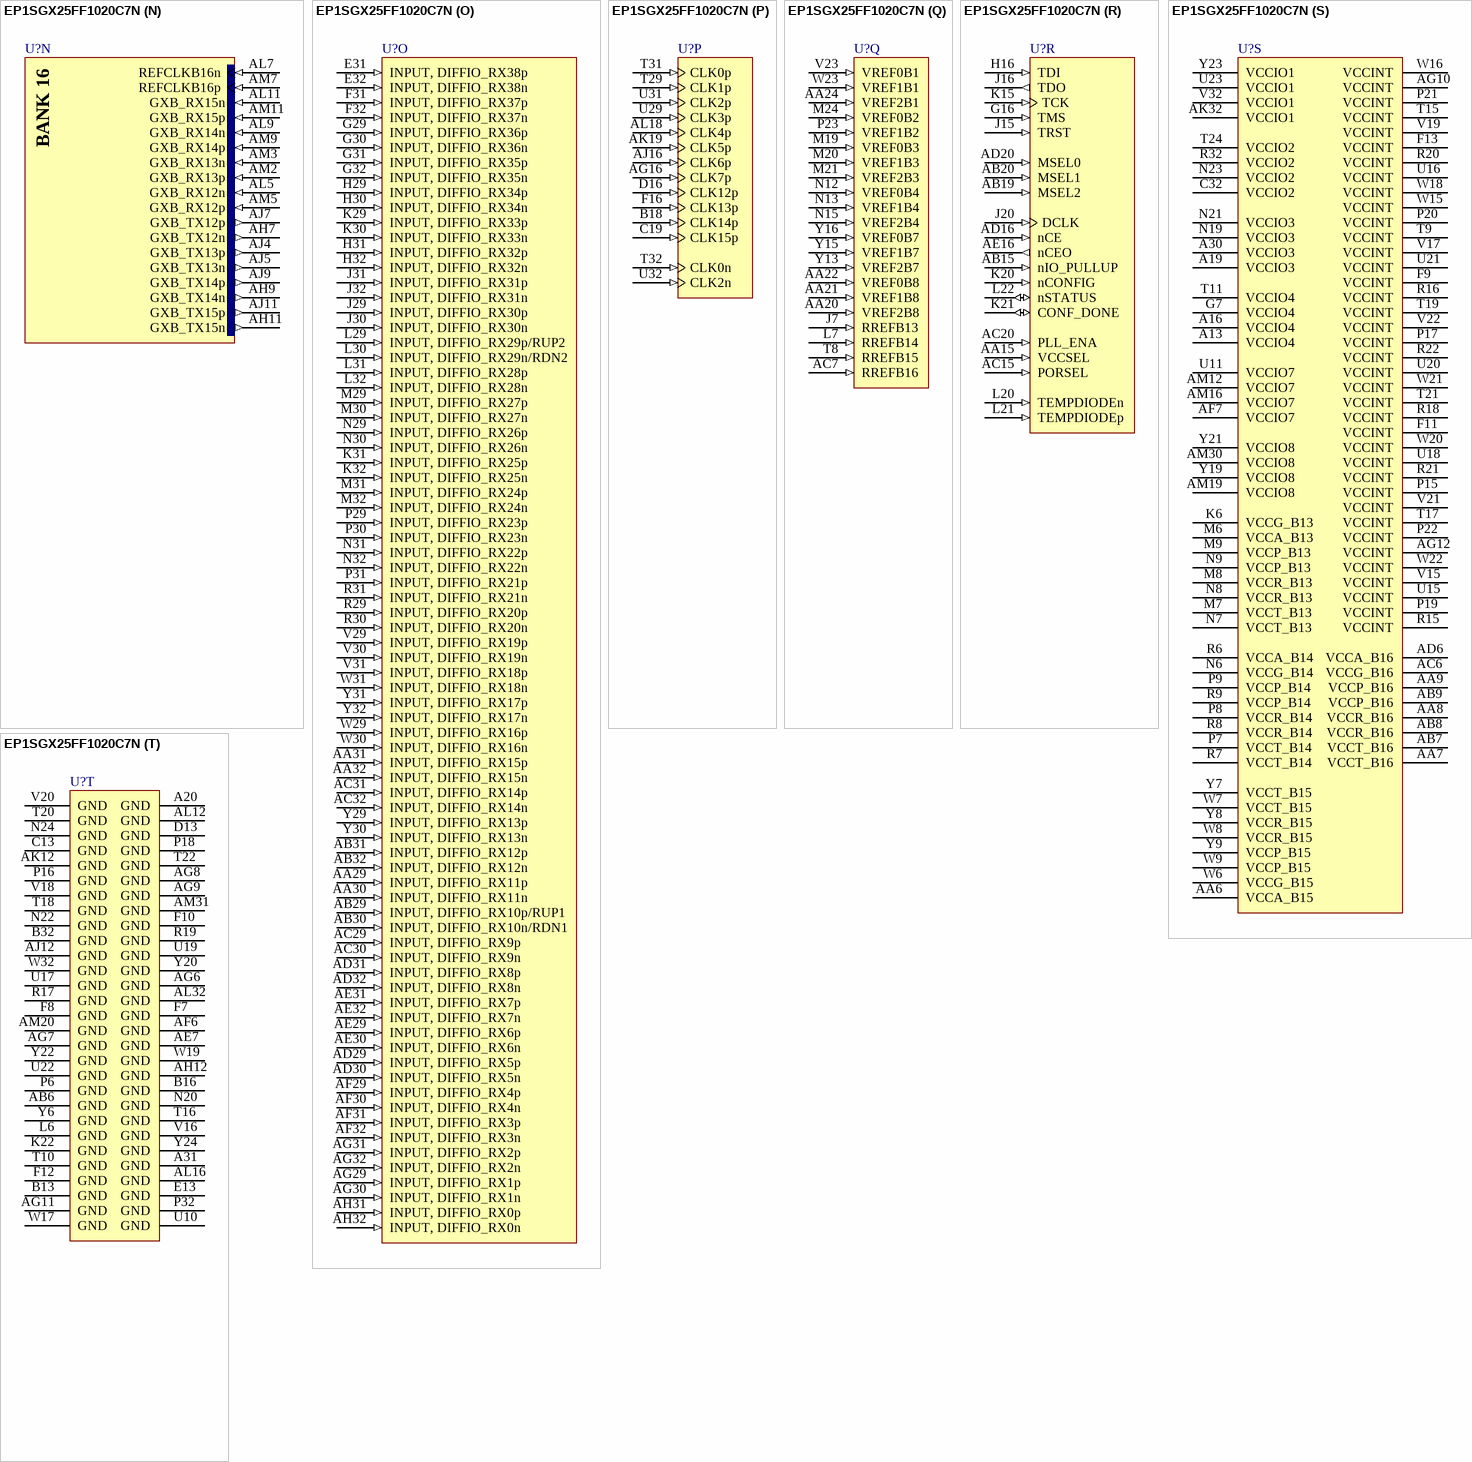
[diagram p157: symbol EP1SGX25FF1020C7N]

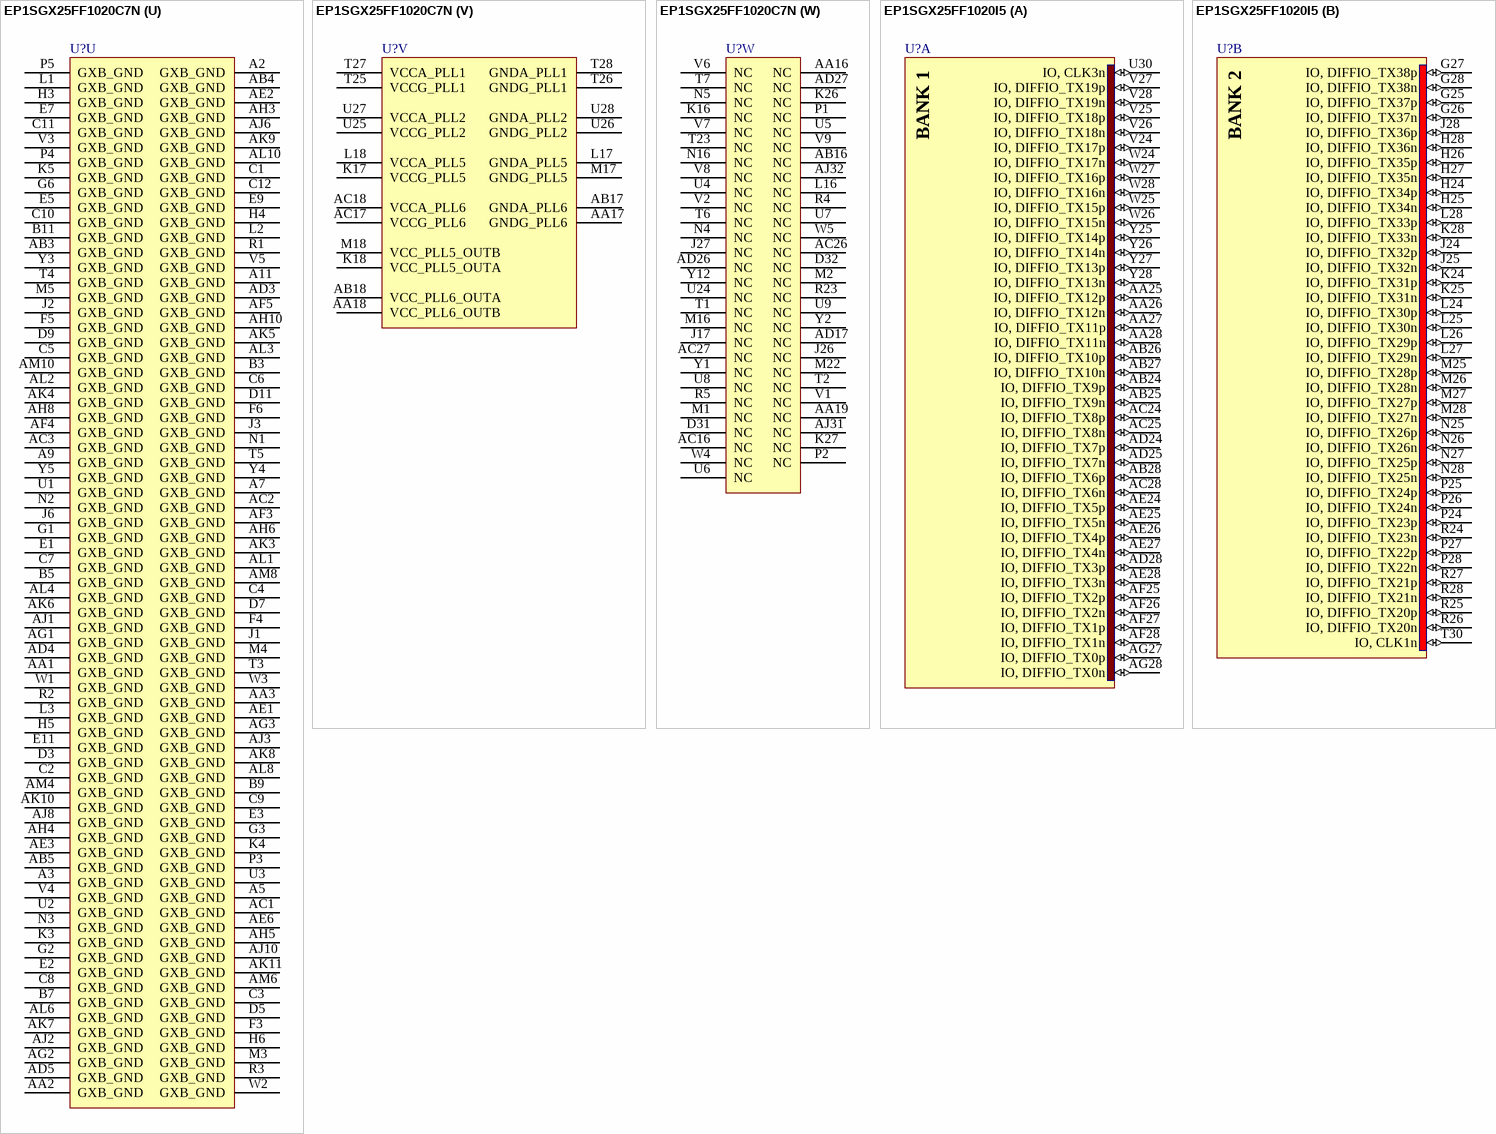
[diagram p158: symbols EP1SGX25FF1020C7N to EP1SGX25FF1020I5]

## EP1SGX25FF1020C7N
designator U?
Stratix GX 1.5V FPGA, 542 I/Os, 1020-Pin FBGA, Commercial Grade, Speed Grade 7, Pb-Free; Published: 4-Mar-2005; LatestRevisionDate: 13-Apr-2006; LatestRevisionNote: IPC-7351 Footprint Added.; DatasheetVersion: ver1.2, Jun-2006; PackageVersion: ver15.1, May-2008; PackageReference: FBGA1020; Publisher: Altium Limited; PackageDescription: 1020-Ball FineLine Ball Grid Array (FBGA1020) - Flip Chip; Supplier 1: Digi-Key; Supplier Part Number 1: EP1SGX25FF1020C7N-ND; Code_JEDEC: MS-034-AAP-1; ComponentLink1Description: Manufacturer Link; ComponentLink1URL: http://www.altera.com/products/devices/stratixgx/sgx-index.jsp; ComponentLink2Description: Handbook; ComponentLink2URL: http://www.altera.com/literature/hb/sgx/sgx_handbook.pdf; ComponentLink3Description: Packaging Specification; ComponentLink3URL: http://www.altera.com/literature/ds/dspkg.pdf
footprint FBGA1020 (BGA, 1020-Leads, Body 33x33mm, Pitch 1mm)
3D model EP1SGX25F-FBGA1020 (1020-Ball FineLine Ball Grid Array (FBGA1020) - Flip Chip)
part A pins: AA25 IO, DIFFIO_TX12p (io), AA26 IO, DIFFIO_TX12n (io), AA27 IO, DIFFIO_TX11p (io), AA28 IO, DIFFIO_TX11n (io), AB24 IO, DIFFIO_TX9p (io), AB25 IO, DIFFIO_TX9n (io), AB26 IO, DIFFIO_TX10p (io), AB27 IO, DIFFIO_TX10n (io), AB28 IO, DIFFIO_TX6p (io), AC24 IO, DIFFIO_TX8p (io), AC25 IO, DIFFIO_TX8n (io), AC28 IO, DIFFIO_TX6n (io), AD24 IO, DIFFIO_TX7p (io), AD25 IO, DIFFIO_TX7n (io), AD28 IO, DIFFIO_TX3p (io), AE24 IO, DIFFIO_TX5p (io), AE25 IO, DIFFIO_TX5n (io), AE26 IO, DIFFIO_TX4p (io), AE27 IO, DIFFIO_TX4n (io), AE28 IO, DIFFIO_TX3n (io), AF25 IO, DIFFIO_TX2p (io), AF26 IO, DIFFIO_TX2n (io), AF27 IO, DIFFIO_TX1p (io), AF28 IO, DIFFIO_TX1n (io), AG27 IO, DIFFIO_TX0p (io), AG28 IO, DIFFIO_TX0n (io), U30 IO, CLK3n (io), V24 IO, DIFFIO_TX17p (io), V25 IO, DIFFIO_TX18p (io), V26 IO, DIFFIO_TX18n (io), V27 IO, DIFFIO_TX19p (io), V28 IO, DIFFIO_TX19n (io), W24 IO, DIFFIO_TX17n (io), W25 IO, DIFFIO_TX15p (io), W26 IO, DIFFIO_TX15n (io), W27 IO, DIFFIO_TX16p (io), W28 IO, DIFFIO_TX16n (io), Y25 IO, DIFFIO_TX14p (io), Y26 IO, DIFFIO_TX14n (io), Y27 IO, DIFFIO_TX13p (io), Y28 IO, DIFFIO_TX13n (io)
part B pins: G25 IO, DIFFIO_TX37p (io), G26 IO, DIFFIO_TX37n (io), G27 IO, DIFFIO_TX38p (io), G28 IO, DIFFIO_TX38n (io), H24 IO, DIFFIO_TX34p (io), H25 IO, DIFFIO_TX34n (io), H26 IO, DIFFIO_TX35p (io), H27 IO, DIFFIO_TX35n (io), H28 IO, DIFFIO_TX36n (io), J24 IO, DIFFIO_TX32p (io), J25 IO, DIFFIO_TX32n (io), J28 IO, DIFFIO_TX36p (io), K24 IO, DIFFIO_TX31p (io), K25 IO, DIFFIO_TX31n (io), K28 IO, DIFFIO_TX33n (io), L24 IO, DIFFIO_TX30p (io), L25 IO, DIFFIO_TX30n (io), L26 IO, DIFFIO_TX29p (io), L27 IO, DIFFIO_TX29n (io), L28 IO, DIFFIO_TX33p (io), M25 IO, DIFFIO_TX28p (io), M26 IO, DIFFIO_TX28n (io), M27 IO, DIFFIO_TX27p (io), M28 IO, DIFFIO_TX27n (io), N25 IO, DIFFIO_TX26p (io), N26 IO, DIFFIO_TX26n (io), N27 IO, DIFFIO_TX25p (io), N28 IO, DIFFIO_TX25n (io), P24 IO, DIFFIO_TX23p (io), P25 IO, DIFFIO_TX24p (io), P26 IO, DIFFIO_TX24n (io), P27 IO, DIFFIO_TX22p (io), P28 IO, DIFFIO_TX22n (io), R24 IO, DIFFIO_TX23n (io), R25 IO, DIFFIO_TX20p (io), R26 IO, DIFFIO_TX20n (io), R27 IO, DIFFIO_TX21p (io), R28 IO, DIFFIO_TX21n (io), T30 IO, CLK1n (io)
part C pins: A18 IO, CLK14n (io), A21 IO, DQ6T2/DQ2T2/DQ1T2 (io), A22 IO, DQ6T3/DQ2T3/DQ1T3 (io), A23 IO, DQ7T0/DQ2T8/DQ1T8 (io), A24 IO, DQ7T4/DQ2T12/DQ1T12 (io), A25 IO, DQ8T0/DQ3T0/DQ1T16 (io), A26 IO, DQ8T3/DQ3T3/DQ1T19 (io), A27 IO, DQ9T0/DQ3T8/DQ1T24 (io), A28 IO, DQS9T/_/_ (io), A29 IO, DQ9T5/DQ3T13/DQ1T29 (io), B19 IO, CLK15n (io), B20 IO, DQ5T4/_/_ (io), B21 IO, DQS6T/DQS2T/_ (io), B22 IO, DQ6T6/DQ2T6/DQ1T6 (io), B23 IO, DQ7T1/DQ2T9/DQ1T9 (io), B24 IO, DQ7T5/DQ2T13/DQ1T13 (io), B25 IO, DQ8T1/DQ3T1/DQ1T17 (io), B26 IO, DQ8T5/DQ3T5/DQ1T21 (io), B27 IO, DQ9T1/DQ3T9/DQ1T25 (io), B28 IO, DQ9T3/DQ3T11/DQ1T27 (io), B29 IO, DQ9T6/DQ3T14/DQ1T30 (io), B30 IO (io), B31 IO (io), C20 IO, DQ5T5/_/_ (io), C21 IO, DQ6T0/DQ2T0/DQ1T0 (io), C22 IO, DQ6T4/DQ2T4/DQ1T4 (io), C23 IO, DQ7T2/DQ2T10/DQ1T10 (io), C24 IO, DQ7T6/DQ2T14/DQ1T14 (io), C25 IO, DQ8T2/DQ3T2/DQ1T18 (io), C26 IO, DQ8T6/DQ3T6/DQ1T22 (io), C27 IO, DQ9T2/DQ3T10/DQ1T26 (io), C28 IO, DQ9T4/DQ3T12/DQ1T28 (io), C29 IO, DQ9T7/DQ3T15/DQ1T31 (io), C30 IO (io), C31 IO (io), D19 IO, DQ5T3/_/_ (io), D20 IO, DQ5T6/_/_ (io), D21 IO, DQ6T1/DQ2T1/DQ1T1 (io), D22 IO, DQ6T5/DQ2T5/DQ1T5 (io), D23 IO, DQS7T/_/DQS1T (io), D24 IO, DQ7T7/DQ2T15/DQ1T15 (io), D25 IO, DQS8T/DQS3T/_ (io), D26 IO, DQ8T7/DQ3T7/DQ1T23 (io), D27 IO (io), D28 IO (io), D29 IO (io), D30 IO (io), E19 IO, DQ5T0/_/_ (io), E20 IO, DQ5T2/_/_ (io), E21 IO, DQ5T7/_/_ (io), E22 IO, DQ6T7/DQ2T7/DQ1T7 (io), E23 IO, DQ7T3/DQ2T11/DQ1T11 (io), E24 IO (io), E25 IO, DQ8T4/DQ3T4/DQ1T20 (io), E26 IO (io), E27 IO (io), E28 IO (io), E29 IO (io), E30 IO (io), F19 IO, DQ5T1/_/_ (io), F20 IO, DQS5T/_/_ (io), F21 IO, (DATA7) (io), F22 IO, (CLKUSR) (io), F23 IO (io), F24 IO (io), F25 IO (io), F26 IO (io), F27 IO (io), F28 IO (io), F29 IO (io), F30 IO (io), G20 IO, (DATA4) (io), G21 IO, RDN3 (io), G22 IO, FCLK0 (io), G23 IO (io), G24 IO (io), H20 IO, (DATA5) (io), H21 IO, RUP3 (io), H22 IO, FCLK1 (io), H23 IO (io), J21 IO, (DATA6) (io), J22 IO (io), J23 IO (io), K23 IO (io), L23 IO (io), M23 IO (io)
part D pins: A14 IO, DQ4T2/_/_ (io), A15 IO, DQ4T1/_/_ (io), B14 IO, DQS4T/_/_ (io), B15 IO, DQ4T3/_/_ (io), C14 IO, DQ4T0/_/_ (io), C15 IO, DQ4T4/_/_ (io), C16 IO, CLK12n (io), D14 IO, DQ3T1/DQ1T9/DQ0T25 (io), D15 IO, DQ4T6/_/_ (io), E14 IO, DQ3T3/DQ1T11/DQ0T27 (io), E15 IO, DQ4T7/_/_ (io), E16 IO, CLK13n (io), F14 IO, DQ3T2/DQ1T10/DQ0T26 (io), F15 IO, DQ4T5/_/_ (io), G8 IO, DQS0T/_/_ (io), G9 IO, DQ0T5/DQ0T5/DQ0T5 (io), G10 IO, DQ1T2/DQ0T10/DQ0T10 (io), G11 IO, DQ1T7/DQ0T15/DQ0T15 (io), G12 IO, DQ2T2/DQ1T2/DQ0T18 (io), G13 IO, DQ3T0/DQ1T8/DQ0T24 (io), G14 IO, DQS3T/DQS1T/_ (io), G15 IO, DQ3T6/DQ1T14/DQ0T30 (io), G17 IO (io), G18 IO (io), G19 IO, (nWS) (io), H7 IO (io), H8 IO, DQ0T6/DQ0T6/DQ0T6 (io), H9 IO, DQ0T0/DQ0T0/DQ0T0 (io), H10 IO, DQS1T/DQS0T/_ (io), H11 IO, DQ1T4/DQ0T12/DQ0T12 (io), H12 IO, DQS2T/_/DQS0T (io), H13 IO, DQ2T4/DQ1T4/DQ0T20 (io), H14 IO, DQ3T4/DQ1T12/DQ0T28 (io), H15 IO, DQ3T7/DQ1T15/DQ0T31 (io), H17 IO, (DATA0) (io), H18 IO, (DATA1) (io), H19 IO, RUP4 (io), J8 IO, DQ0T1/DQ0T1/DQ0T1 (io), J9 IO, DQ0T3/DQ0T3/DQ0T3 (io), J10 IO, DQ1T0/DQ0T8/DQ0T8 (io), J11 IO, DQ1T5/DQ0T13/DQ0T13 (io), J12 IO, DQ2T0/DQ1T0/DQ0T16 (io), J13 IO, DQ2T5/DQ1T5/DQ0T21 (io), J14 IO, DQ3T5/DQ1T13/DQ0T29 (io), J18 IO (io), J19 IO, (DATA3) (io), K7 IO (io), K8 IO, DQ0T2/DQ0T2/DQ0T2 (io), K9 IO, DQ0T4/DQ0T4/DQ0T4 (io), K10 IO, DQ1T1/DQ0T9/DQ0T9 (io), K11 IO, DQ1T3/DQ0T11/DQ0T11 (io), K12 IO, DQ2T1/DQ1T1/DQ0T17 (io), K13 IO, DQ2T7/DQ1T7/DQ0T23 (io), K14 IO, RDN4 (io), K19 IO (io), L8 IO (io), L9 IO, DQ0T7/DQ0T7/DQ0T7 (io), L10 IO (io), L11 IO, DQ1T6/DQ0T14/DQ0T14 (io), L12 IO, DQ2T3/DQ1T3/DQ0T19 (io), L13 IO, DQ2T6/DQ1T6/DQ0T22 (io), L14 IO (io), L15 IO (io), L19 IO, (DATA2) (io), M10 IO (io), M11 IO (io), M12 IO (io), M13 IO, FCLK6 (io), M14 IO, DEV_OE (io), M15 IO (io), N10 IO (io), N11 IO (io), N14 IO (io), N17 IO (io), N18 IO (io), P10 IO (io), P11 IO (io), P12 IO (io), P13 IO (io), P14 IO (io), R10 IO (io), R11 IO (io), R12 IO (io), R13 IO (io), R14 IO (io), T12 IO (io), T13 IO (io), T14 IO, FCLK7 (io), U12 IO (io)
part E pins: AA10 IO (io), AA11 IO (io), AA12 IO (io), AA13 IO (io), AA14 IO (io), AB10 IO (io), AB11 IO, DQ1B6/DQ0B14/DQ0B14 (io), AB12 IO, DQ1B5/DQ0B13/DQ0B13 (io), AB13 IO, DQ2B3/DQ1B3/DQ0B19 (io), AB14 IO (io), AC8 IO, DQ0B4/DQ0B4/DQ0B4 (io), AC9 IO, DQ0B7/DQ0B7/DQ0B7 (io), AC10 IO, DQ1B1/DQ0B9/DQ0B9 (io), AC11 IO, DQ1B3/DQ0B11/DQ0B11 (io), AC12 IO, DQ2B1/DQ1B1/DQ0B17 (io), AC13 IO, DQ2B6/DQ1B6/DQ0B22 (io), AC14 IO, RDN7 (io), AC19 IO (io), AD7 IO (io), AD8 IO, DQ0B2/DQ0B2/DQ0B2 (io), AD9 IO, DQ0B1/DQ0B1/DQ0B1 (io), AD10 IO, DQ1B0/DQ0B8/DQ0B8 (io), AD11 IO, DQS1B/DQS0B/_ (io), AD12 IO, DQ2B0/DQ1B0/DQ0B16 (io), AD13 IO, DQ2B7/DQ1B7/DQ0B23 (io), AD14 IO, DEV_CLRn (io), AD15 IO (io), AD18 IO, (PGM0) (io), AD19 IO, (INIT_DONE) (io), AE8 IO, DQ0B3/DQ0B3/DQ0B3 (io), AE9 IO, DQ0B0/DQ0B0/DQ0B0 (io), AE10 IO, DQ1B2/DQ0B10/DQ0B10 (io), AE11 IO, DQ1B4/DQ0B12/DQ0B12 (io), AE12 IO, DQS2B/_/DQS0B (io), AE13 IO, DQ2B5/DQ1B5/DQ0B21 (io), AE14 IO (io), AE15 IO (io), AE17 IO, (nRS) (io), AE18 IO (io), AE19 IO (io), AF8 IO, DQ0B6/DQ0B6/DQ0B6 (io), AF9 IO, DQS0B/_/_ (io), AF10 IO, DQ0B5/DQ0B5/DQ0B5 (io), AF11 IO, DQ1B7/DQ0B15/DQ0B15 (io), AF12 IO, DQ2B2/DQ1B2/DQ0B18 (io), AF13 IO, DQ2B4/DQ1B4/DQ0B20 (io), AF14 IO (io), AF15 IO, FCLK5 (io), AF16 IO (io), AF17 IO, (PGM1) (io), AF18 IO, (RUnLU) (io), AF19 IO, RUP7 (io), AG13 IO, DQ3B0/DQ1B8/DQ0B24 (io), AG14 IO, DQ3B7/DQ1B15/DQ0B31 (io), AG15 IO, DQ4B7/_/_ (io), AH13 IO, DQS3B/DQS1B/_ (io), AH14 IO, DQ3B6/DQ1B14/DQ0B30 (io), AH15 IO, DQ4B5/_/_ (io), AH16 IO, CLK7n (io), AJ13 IO, DQ3B2/DQ1B10/DQ0B26 (io), AJ14 IO, DQ3B3/DQ1B11/DQ0B27 (io), AJ15 IO, DQ4B6/_/_ (io), AK13 IO, DQ3B1/DQ1B9/DQ0B25 (io), AK14 IO, DQ4B0/_/_ (io), AK15 IO, DQ4B4/_/_ (io), AK16 IO, CLK6n (io), AL13 IO, DQ3B5/DQ1B13/DQ0B29 (io), AL14 IO, DQS4B/_/_ (io), AL15 IO, DQ4B3/_/_ (io), AM13 IO, DQ3B4/DQ1B12/DQ0B28 (io), AM14 IO, DQ4B2/_/_ (io), AM15 IO, DQ4B1/_/_ (io), U13 IO (io), U14 IO, FCLK4 (io), V10 IO (io), V11 IO (io), V12 IO (io), V13 IO (io), V14 IO (io), W10 IO (io), W11 IO (io), W12 IO (io), W13 IO (io), W14 IO (io), Y10 IO (io), Y11 IO (io), Y14 IO (io), Y17 IO (io), Y18 IO (io)
part F pins: AA23 IO (io), AB21 IO, (nCS) (io), AB22 IO (io), AB23 IO (io), AC21 IO, (RDYnBSY) (io), AC22 IO (io), AC23 IO (io), AD21 IO, RDN8 (io), AD22 IO (io), AD23 IO (io), AE20 IO, (CS) (io), AE21 IO (io), AE22 IO, FCLK3 (io), AE23 IO (io), AF20 IO, RUP8 (io), AF21 IO, (PGM2) (io), AF22 IO, FCLK2 (io), AF23 IO (io), AF24 IO (io), AG19 IO, DQ5B1/_/_ (io), AG20 IO, DQS5B/_/_ (io), AG21 IO (io), AG22 IO (io), AG23 IO (io), AG24 IO (io), AG25 IO (io), AG26 IO (io), AH19 IO, DQ5B0/_/_ (io), AH20 IO, DQ5B2/_/_ (io), AH21 IO, DQ5B7/_/_ (io), AH22 IO, DQ6B7/DQ2B7/DQ1B7 (io), AH23 IO, DQ7B3/DQ2B11/DQ1B11 (io), AH24 IO (io), AH25 IO, DQ8B4/DQ3B4/DQ1B20 (io), AH26 IO (io), AH27 IO (io), AH28 IO (io), AH29 IO (io), AH30 IO (io), AJ19 IO, DQ5B3/_/_ (io), AJ20 IO, DQ5B6/_/_ (io), AJ21 IO, DQ6B1/DQ2B1/DQ1B1 (io), AJ22 IO, DQ6B5/DQ2B5/DQ1B5 (io), AJ23 IO, DQS7B/_/DQS1B (io), AJ24 IO, DQ7B7/DQ2B15/DQ1B15 (io), AJ25 IO, DQS8B/DQS3B/_ (io), AJ26 IO, DQ8B7/DQ3B7/DQ1B23 (io), AJ27 IO (io), AJ28 IO (io), AJ29 IO (io), AJ30 IO (io), AK20 IO, DQ5B5/_/_ (io), AK21 IO, DQ6B0/DQ2B0/DQ1B0 (io), AK22 IO, DQ6B4/DQ2B4/DQ1B4 (io), AK23 IO, DQ7B2/DQ2B10/DQ1B10 (io), AK24 IO, DQ7B6/DQ2B14/DQ1B14 (io), AK25 IO, DQ8B2/DQ3B2/DQ1B18 (io), AK26 IO, DQ8B6/DQ3B6/DQ1B22 (io), AK27 IO, DQ9B2/DQ3B10/DQ1B26 (io), AK28 IO, DQ9B4/DQ3B12/DQ1B28 (io), AK29 IO, DQ9B7/DQ3B15/DQ1B31 (io), AK30 IO (io), AK31 IO (io), AL19 IO, CLK5n (io), AL20 IO, DQ5B4/_/_ (io), AL21 IO, DQS6B/DQS2B/_ (io), AL22 IO, DQ6B6/DQ2B6/DQ1B6 (io), AL23 IO, DQ7B1/DQ2B9/DQ1B9 (io), AL24 IO, DQ7B5/DQ2B13/DQ1B13 (io), AL25 IO, DQ8B1/DQ3B1/DQ1B17 (io), AL26 IO, DQ8B5/DQ3B5/DQ1B21 (io), AL27 IO, DQ9B1/DQ3B9/DQ1B25 (io), AL28 IO, DQ9B3/DQ3B11/DQ1B27 (io), AL29 IO, DQ9B6/DQ3B14/DQ1B30 (io), AL30 IO (io), AL31 IO (io), AM18 IO, CLK4n (io), AM21 IO, DQ6B2/DQ2B2/DQ1B2 (io), AM22 IO, DQ6B3/DQ2B3/DQ1B3 (io), AM23 IO, DQ7B0/DQ2B8/DQ1B8 (io), AM24 IO, DQ7B4/DQ2B12/DQ1B12 (io), AM25 IO, DQ8B0/DQ3B0/DQ1B16 (io), AM26 IO, DQ8B3/DQ3B3/DQ1B19 (io), AM27 IO, DQ9B0/DQ3B8/DQ1B24 (io), AM28 IO, DQS9B/_/_ (io), AM29 IO, DQ9B5/DQ3B13/DQ1B29 (io)
part G pins: C17 IO, PLL5_OUT1n (io), D17 IO, PLL5_OUT1p (io), E17 IO, PLL5_FBn (io), E18 IO, PLL5_OUT0n (io), F17 IO, PLL5_FBp (io), F18 IO, PLL5_OUT0p (io)
part H pins: A17 IO, PLL5_OUT2n (io), B17 IO, PLL5_OUT2p (io), C18 IO, PLL5_OUT3n (io), D18 IO, PLL5_OUT3p (io)
part I pins: AG17 IO, PLL6_FBp (io), AH17 IO, PLL6_FBn (io), AJ17 IO, PLL6_OUT1p (io), AK17 IO, PLL6_OUT1n (io), AL17 IO, PLL6_OUT0p (io), AM17 IO, PLL6_OUT0n (io)
part J pins: AG18 IO, PLL6_OUT3p (io), AH18 IO, PLL6_OUT3n (io), AJ18 IO, PLL6_OUT2p (io), AK18 IO, PLL6_OUT2n (io)
part K pins: A4 GXB_RX3p (in), A6 GXB_RX2p (in), A8 REFCLKB13p (in), A10 GXB_RX0p (in), A12 GXB_RX1p (in), B4 GXB_RX3n (in), B6 GXB_RX2n (in), B8 REFCLKB13n (in), B10 GXB_RX0n (in), B12 GXB_RX1n (in), D6 GXB_TX3p (out), D8 GXB_TX2p (out), D10 GXB_TX0p (out), D12 GXB_TX1p (out), E6 GXB_TX3n (out), E8 GXB_TX2n (out), E10 GXB_TX0n (out), E12 GXB_TX1n (out)
part L pins: B1 GXB_RX5p (in), B2 GXB_RX5n (in), D1 GXB_RX4p (in), D2 GXB_RX4n (in), D4 GXB_TX5p (out), E4 GXB_TX5n (out), F1 REFCLKB14p (in), F2 REFCLKB14n (in), G4 GXB_TX4p (out), G5 GXB_TX4n (out), H1 GXB_RX6p (in), H2 GXB_RX6n (in), J4 GXB_TX6p (out), J5 GXB_TX6n (out), K1 GXB_RX7p (in), K2 GXB_RX7n (in), L4 GXB_TX7p (out), L5 GXB_TX7n (out)
part M pins: AA4 GXB_TX9p (out), AA5 GXB_TX9n (out), AB1 GXB_RX9p (in), AB2 GXB_RX9n (in), AC4 GXB_TX8p (out), AC5 GXB_TX8n (out), AD1 GXB_RX8p (in), AD2 GXB_RX8n (in), AE4 GXB_TX10p (out), AE5 GXB_TX10n (out), AF1 REFCLKB15p (in), AF2 REFCLKB15n (in), AG4 GXB_TX11p (out), AG5 GXB_TX11n (out), AH1 GXB_RX10p (in), AH2 GXB_RX10n (in), AK1 GXB_RX11p (in), AK2 GXB_RX11n (in)
part N pins: AH7 GXB_TX12n (out), AH9 GXB_TX14n (out), AH11 GXB_TX15n (out), AJ4 GXB_TX13p (out), AJ5 GXB_TX13n (out), AJ7 GXB_TX12p (out), AJ9 GXB_TX14p (out), AJ11 GXB_TX15p (out), AL5 GXB_RX12n (in), AL7 REFCLKB16n (in), AL9 GXB_RX14n (in), AL11 GXB_RX15n (in), AM2 GXB_RX13p (in), AM3 GXB_RX13n (in), AM5 GXB_RX12p (in), AM7 REFCLKB16p (in), AM9 GXB_RX14p (in), AM11 GXB_RX15p (in)
part O pins: AA29 INPUT, DIFFIO_RX11p (in), AA30 INPUT, DIFFIO_RX11n (in), AA31 INPUT, DIFFIO_RX15p (in), AA32 INPUT, DIFFIO_RX15n (in), AB29 INPUT, DIFFIO_RX10p/RUP1 (in), AB30 INPUT, DIFFIO_RX10n/RDN1 (in), AB31 INPUT, DIFFIO_RX12p (in), AB32 INPUT, DIFFIO_RX12n (in), AC29 INPUT, DIFFIO_RX9p (in), AC30 INPUT, DIFFIO_RX9n (in), AC31 INPUT, DIFFIO_RX14p (in), AC32 INPUT, DIFFIO_RX14n (in), AD29 INPUT, DIFFIO_RX5p (in), AD30 INPUT, DIFFIO_RX5n (in), AD31 INPUT, DIFFIO_RX8p (in), AD32 INPUT, DIFFIO_RX8n (in), AE29 INPUT, DIFFIO_RX6p (in), AE30 INPUT, DIFFIO_RX6n (in), AE31 INPUT, DIFFIO_RX7p (in), AE32 INPUT, DIFFIO_RX7n (in), AF29 INPUT, DIFFIO_RX4p (in), AF30 INPUT, DIFFIO_RX4n (in), AF31 INPUT, DIFFIO_RX3p (in), AF32 INPUT, DIFFIO_RX3n (in), AG29 INPUT, DIFFIO_RX1p (in), AG30 INPUT, DIFFIO_RX1n (in), AG31 INPUT, DIFFIO_RX2p (in), AG32 INPUT, DIFFIO_RX2n (in), AH31 INPUT, DIFFIO_RX0p (in), AH32 INPUT, DIFFIO_RX0n (in), E31 INPUT, DIFFIO_RX38p (in), E32 INPUT, DIFFIO_RX38n (in), F31 INPUT, DIFFIO_RX37p (in), F32 INPUT, DIFFIO_RX37n (in), G29 INPUT, DIFFIO_RX36p (in), G30 INPUT, DIFFIO_RX36n (in), G31 INPUT, DIFFIO_RX35p (in), G32 INPUT, DIFFIO_RX35n (in), H29 INPUT, DIFFIO_RX34p (in), H30 INPUT, DIFFIO_RX34n (in), H31 INPUT, DIFFIO_RX32p (in), H32 INPUT, DIFFIO_RX32n (in), J29 INPUT, DIFFIO_RX30p (in), J30 INPUT, DIFFIO_RX30n (in), J31 INPUT, DIFFIO_RX31p (in), J32 INPUT, DIFFIO_RX31n (in), K29 INPUT, DIFFIO_RX33p (in), K30 INPUT, DIFFIO_RX33n (in), K31 INPUT, DIFFIO_RX25p (in), K32 INPUT, DIFFIO_RX25n (in), L29 INPUT, DIFFIO_RX29p/RUP2 (in), L30 INPUT, DIFFIO_RX29n/RDN2 (in), L31 INPUT, DIFFIO_RX28p (in), L32 INPUT, DIFFIO_RX28n (in), M29 INPUT, DIFFIO_RX27p (in), M30 INPUT, DIFFIO_RX27n (in), M31 INPUT, DIFFIO_RX24p (in), M32 INPUT, DIFFIO_RX24n (in), N29 INPUT, DIFFIO_RX26p (in), N30 INPUT, DIFFIO_RX26n (in), N31 INPUT, DIFFIO_RX22p (in), N32 INPUT, DIFFIO_RX22n (in), P29 INPUT, DIFFIO_RX23p (in), P30 INPUT, DIFFIO_RX23n (in), P31 INPUT, DIFFIO_RX21p (in), R29 INPUT, DIFFIO_RX20p (in), R30 INPUT, DIFFIO_RX20n (in), R31 INPUT, DIFFIO_RX21n (in), V29 INPUT, DIFFIO_RX19p (in), V30 INPUT, DIFFIO_RX19n (in), V31 INPUT, DIFFIO_RX18p (in), W29 INPUT, DIFFIO_RX16p (in), W30 INPUT, DIFFIO_RX16n (in), W31 INPUT, DIFFIO_RX18n (in), Y29 INPUT, DIFFIO_RX13p (in), Y30 INPUT, DIFFIO_RX13n (in), Y31 INPUT, DIFFIO_RX17p (in), Y32 INPUT, DIFFIO_RX17n (in)
part P pins: AG16 CLK7p (in), AJ16 CLK6p (in), AK19 CLK5p (in), AL18 CLK4p (in), B18 CLK14p (in), C19 CLK15p (in), D16 CLK12p (in), F16 CLK13p (in), T29 CLK1p (in), T31 CLK0p (in), T32 CLK0n (in), U29 CLK3p (in), U31 CLK2p (in), U32 CLK2n (in)
part Q pins: AA20 VREF2B8 (in), AA21 VREF1B8 (in), AA22 VREF0B8 (in), AA24 VREF2B1 (in), AC7 RREFB16 (in), J7 RREFB13 (in), L7 RREFB14 (in), M19 VREF0B3 (in), M20 VREF1B3 (in), M21 VREF2B3 (in), M24 VREF0B2 (in), N12 VREF0B4 (in), N13 VREF1B4 (in), N15 VREF2B4 (in), P23 VREF1B2 (in), T8 RREFB15 (in), V23 VREF0B1 (in), W23 VREF1B1 (in), Y13 VREF2B7 (in), Y15 VREF1B7 (in), Y16 VREF0B7 (in)
part R pins: AA15 VCCSEL (in), AB15 nIO_PULLUP (in), AB19 MSEL2 (in), AB20 MSEL1 (in), AC15 PORSEL (in), AC20 PLL_ENA (in), AD16 nCE (in), AD20 MSEL0 (in), AE16 nCEO (out), G16 TMS (in), H16 TDI (in), J15 TRST (in), J16 TDO (out), J20 DCLK (in), K15 TCK (in), K20 nCONFIG (in), K21 CONF_DONE (io), L20 TEMPDIODEn (in), L21 TEMPDIODEp (in), L22 nSTATUS (io)
part S pins: A13 VCCIO4 (power), A16 VCCIO4 (power), A19 VCCIO3 (power), A30 VCCIO3 (power), AA6 VCCA_B15 (power), AA7 VCCT_B16 (power), AA8 VCCR_B16 (power), AA9 VCCP_B16 (power), AB7 VCCT_B16 (power), AB8 VCCR_B16 (power), AB9 VCCP_B16 (power), AC6 VCCG_B16 (power), AD6 VCCA_B16 (power), AF7 VCCIO7 (power), AG10 VCCINT (power), AG12 VCCINT (power), AK32 VCCIO1 (power), AM12 VCCIO7 (power), AM16 VCCIO7 (power), AM19 VCCIO8 (power), AM30 VCCIO8 (power), C32 VCCIO2 (power), F9 VCCINT (power), F11 VCCINT (power), F13 VCCINT (power), G7 VCCIO4 (power), K6 VCCG_B13 (power), M6 VCCA_B13 (power), M7 VCCT_B13 (power), M8 VCCR_B13 (power), M9 VCCP_B13 (power), N6 VCCG_B14 (power), N7 VCCT_B13 (power), N8 VCCR_B13 (power), N9 VCCP_B13 (power), N19 VCCIO3 (power), N21 VCCIO3 (power), N23 VCCIO2 (power), P7 VCCT_B14 (power), P8 VCCR_B14 (power), P9 VCCP_B14 (power), P15 VCCINT (power), P17 VCCINT (power), P19 VCCINT (power), P20 VCCINT (power), P21 VCCINT (power), P22 VCCINT (power), R6 VCCA_B14 (power), R7 VCCT_B14 (power), R8 VCCR_B14 (power), R9 VCCP_B14 (power), R15 VCCINT (power), R16 VCCINT (power), R18 VCCINT (power), R20 VCCINT (power), R21 VCCINT (power), R22 VCCINT (power), R32 VCCIO2 (power), T9 VCCINT (power), T11 VCCIO4 (power), T15 VCCINT (power), T17 VCCINT (power), T19 VCCINT (power), T21 VCCINT (power), T24 VCCIO2 (power), U11 VCCIO7 (power), U15 VCCINT (power), U16 VCCINT (power), U18 VCCINT (power), U20 VCCINT (power), U21 VCCINT (power), U23 VCCIO1 (power), V15 VCCINT (power), V17 VCCINT (power), V19 VCCINT (power), V21 VCCINT (power), V22 VCCINT (power), V32 VCCIO1 (power), W6 VCCG_B15 (power), W7 VCCT_B15 (power), W8 VCCR_B15 (power), W9 VCCP_B15 (power), W15 VCCINT (power), W16 VCCINT (power), W18 VCCINT (power), W20 VCCINT (power), W21 VCCINT (power), W22 VCCINT (power), Y7 VCCT_B15 (power), Y8 VCCR_B15 (power), Y9 VCCP_B15 (power), Y19 VCCIO8 (power), Y21 VCCIO8 (power), Y23 VCCIO1 (power)
part T pins: A20 GND (power), A31 GND (power), AB6 GND (power), AE7 GND (power), AF6 GND (power), AG6 GND (power), AG7 GND (power), AG8 GND (power), AG9 GND (power), AG11 GND (power), AH12 GND (power), AJ12 GND (power), AK12 GND (power), AL12 GND (power), AL16 GND (power), AL32 GND (power), AM20 GND (power), AM31 GND (power), B13 GND (power), B16 GND (power), B32 GND (power), C13 GND (power), D13 GND (power), E13 GND (power), F7 GND (power), F8 GND (power), F10 GND (power), F12 GND (power), K22 GND (power), L6 GND (power), N20 GND (power), N22 GND (power), N24 GND (power), P6 GND (power), P16 GND (power), P18 GND (power), P32 GND (power), R17 GND (power), R19 GND (power), T10 GND (power), T16 GND (power), T18 GND (power), T20 GND (power), T22 GND (power), U10 GND (power), U17 GND (power), U19 GND (power), U22 GND (power), V16 GND (power), V18 GND (power), V20 GND (power), W17 GND (power), W19 GND (power), W32 GND (power), Y6 GND (power), Y20 GND (power), Y22 GND (power), Y24 GND (power)
part U pins: A2 GXB_GND (power), A3 GXB_GND (power), A5 GXB_GND (power), A7 GXB_GND (power), A9 GXB_GND (power), A11 GXB_GND (power), AA1 GXB_GND (power), AA2 GXB_GND (power), AA3 GXB_GND (power), AB3 GXB_GND (power), AB4 GXB_GND (power), AB5 GXB_GND (power), AC1 GXB_GND (power), AC2 GXB_GND (power), AC3 GXB_GND (power), AD3 GXB_GND (power), AD4 GXB_GND (power), AD5 GXB_GND (power), AE1 GXB_GND (power), AE2 GXB_GND (power), AE3 GXB_GND (power), AE6 GXB_GND (power), AF3 GXB_GND (power), AF4 GXB_GND (power), AF5 GXB_GND (power), AG1 GXB_GND (power), AG2 GXB_GND (power), AG3 GXB_GND (power), AH3 GXB_GND (power), AH4 GXB_GND (power), AH5 GXB_GND (power), AH6 GXB_GND (power), AH8 GXB_GND (power), AH10 GXB_GND (power), AJ1 GXB_GND (power), AJ2 GXB_GND (power), AJ3 GXB_GND (power), AJ6 GXB_GND (power), AJ8 GXB_GND (power), AJ10 GXB_GND (power), AK3 GXB_GND (power), AK4 GXB_GND (power), AK5 GXB_GND (power), AK6 GXB_GND (power), AK7 GXB_GND (power), AK8 GXB_GND (power), AK9 GXB_GND (power), AK10 GXB_GND (power), AK11 GXB_GND (power), AL1 GXB_GND (power), AL2 GXB_GND (power), AL3 GXB_GND (power), AL4 GXB_GND (power), AL6 GXB_GND (power), AL8 GXB_GND (power), AL10 GXB_GND (power), AM4 GXB_GND (power), AM6 GXB_GND (power), AM8 GXB_GND (power), AM10 GXB_GND (power), B3 GXB_GND (power), B5 GXB_GND (power), B7 GXB_GND (power), B9 GXB_GND (power), B11 GXB_GND (power), C1 GXB_GND (power), C2 GXB_GND (power), C3 GXB_GND (power), C4 GXB_GND (power), C5 GXB_GND (power), C6 GXB_GND (power), C7 GXB_GND (power), C8 GXB_GND (power), C9 GXB_GND (power), C10 GXB_GND (power), C11 GXB_GND (power), C12 GXB_GND (power), D3 GXB_GND (power), D5 GXB_GND (power), D7 GXB_GND (power), D9 GXB_GND (power), D11 GXB_GND (power), E1 GXB_GND (power), E2 GXB_GND (power), E3 GXB_GND (power), E5 GXB_GND (power), E7 GXB_GND (power), E9 GXB_GND (power), E11 GXB_GND (power), F3 GXB_GND (power), F4 GXB_GND (power), F5 GXB_GND (power), F6 GXB_GND (power), G1 GXB_GND (power), G2 GXB_GND (power), G3 GXB_GND (power), G6 GXB_GND (power), H3 GXB_GND (power), H4 GXB_GND (power), H5 GXB_GND (power), H6 GXB_GND (power), J1 GXB_GND (power), J2 GXB_GND (power), J3 GXB_GND (power), J6 GXB_GND (power), K3 GXB_GND (power), K4 GXB_GND (power), K5 GXB_GND (power), L1 GXB_GND (power), L2 GXB_GND (power), L3 GXB_GND (power), M3 GXB_GND (power), M4 GXB_GND (power), M5 GXB_GND (power), N1 GXB_GND (power), N2 GXB_GND (power), N3 GXB_GND (power), P3 GXB_GND (power), P4 GXB_GND (power), P5 GXB_GND (power), R1 GXB_GND (power), R2 GXB_GND (power), R3 GXB_GND (power), T3 GXB_GND (power), T4 GXB_GND (power), T5 GXB_GND (power), U1 GXB_GND (power), U2 GXB_GND (power), U3 GXB_GND (power), V3 GXB_GND (power), V4 GXB_GND (power), V5 GXB_GND (power), W1 GXB_GND (power), W2 GXB_GND (power), W3 GXB_GND (power), Y3 GXB_GND (power), Y4 GXB_GND (power), Y5 GXB_GND (power)
part V pins: AA17 GNDG_PLL6 (power), AA18 VCC_PLL6_OUTB (power), AB17 GNDA_PLL6 (power), AB18 VCC_PLL6_OUTA (power), AC17 VCCG_PLL6 (power), AC18 VCCA_PLL6 (power), K17 VCCG_PLL5 (power), K18 VCC_PLL5_OUTA (power), L17 GNDA_PLL5 (power), L18 VCCA_PLL5 (power), M17 GNDG_PLL5 (power), M18 VCC_PLL5_OUTB (power), T25 VCCG_PLL1 (power), T26 GNDG_PLL1 (power), T27 VCCA_PLL1 (power), T28 GNDA_PLL1 (power), U25 VCCG_PLL2 (power), U26 GNDG_PLL2 (power), U27 VCCA_PLL2 (power), U28 GNDA_PLL2 (power)
part W pins: AA16 NC, AA19 NC, AB16 NC, AC16 NC, AC26 NC, AC27 NC, AD17 NC, AD26 NC, AD27 NC, AJ31 NC, AJ32 NC, D31 NC, D32 NC, J17 NC, J26 NC, J27 NC, K16 NC, K26 NC, K27 NC, L16 NC, M1 NC, M2 NC, M16 NC, M22 NC, N4 NC, N5 NC, N16 NC, P1 NC, P2 NC, R4 NC, R5 NC, R23 NC, T1 NC, T2 NC, T6 NC, T7 NC, T23 NC, U4 NC, U5 NC, U6 NC, U7 NC, U8 NC, U9 NC, U24 NC, V1 NC, V2 NC, V6 NC, V7 NC, V8 NC, V9 NC, W4 NC, W5 NC, Y1 NC, Y2 NC, Y12 NC
part A text: BANK 1
part B text: BANK 2
part C text: BANK 3
part D text: BANK 4
part E text: BANK 7
part F text: BANK 8
part G text: BANK 9
part H text: BANK 10
part I text: BANK 11
part J text: BANK 12
part K text: BANK 13
part L text: BANK 14
part M text: BANK 15
part N text: BANK 16

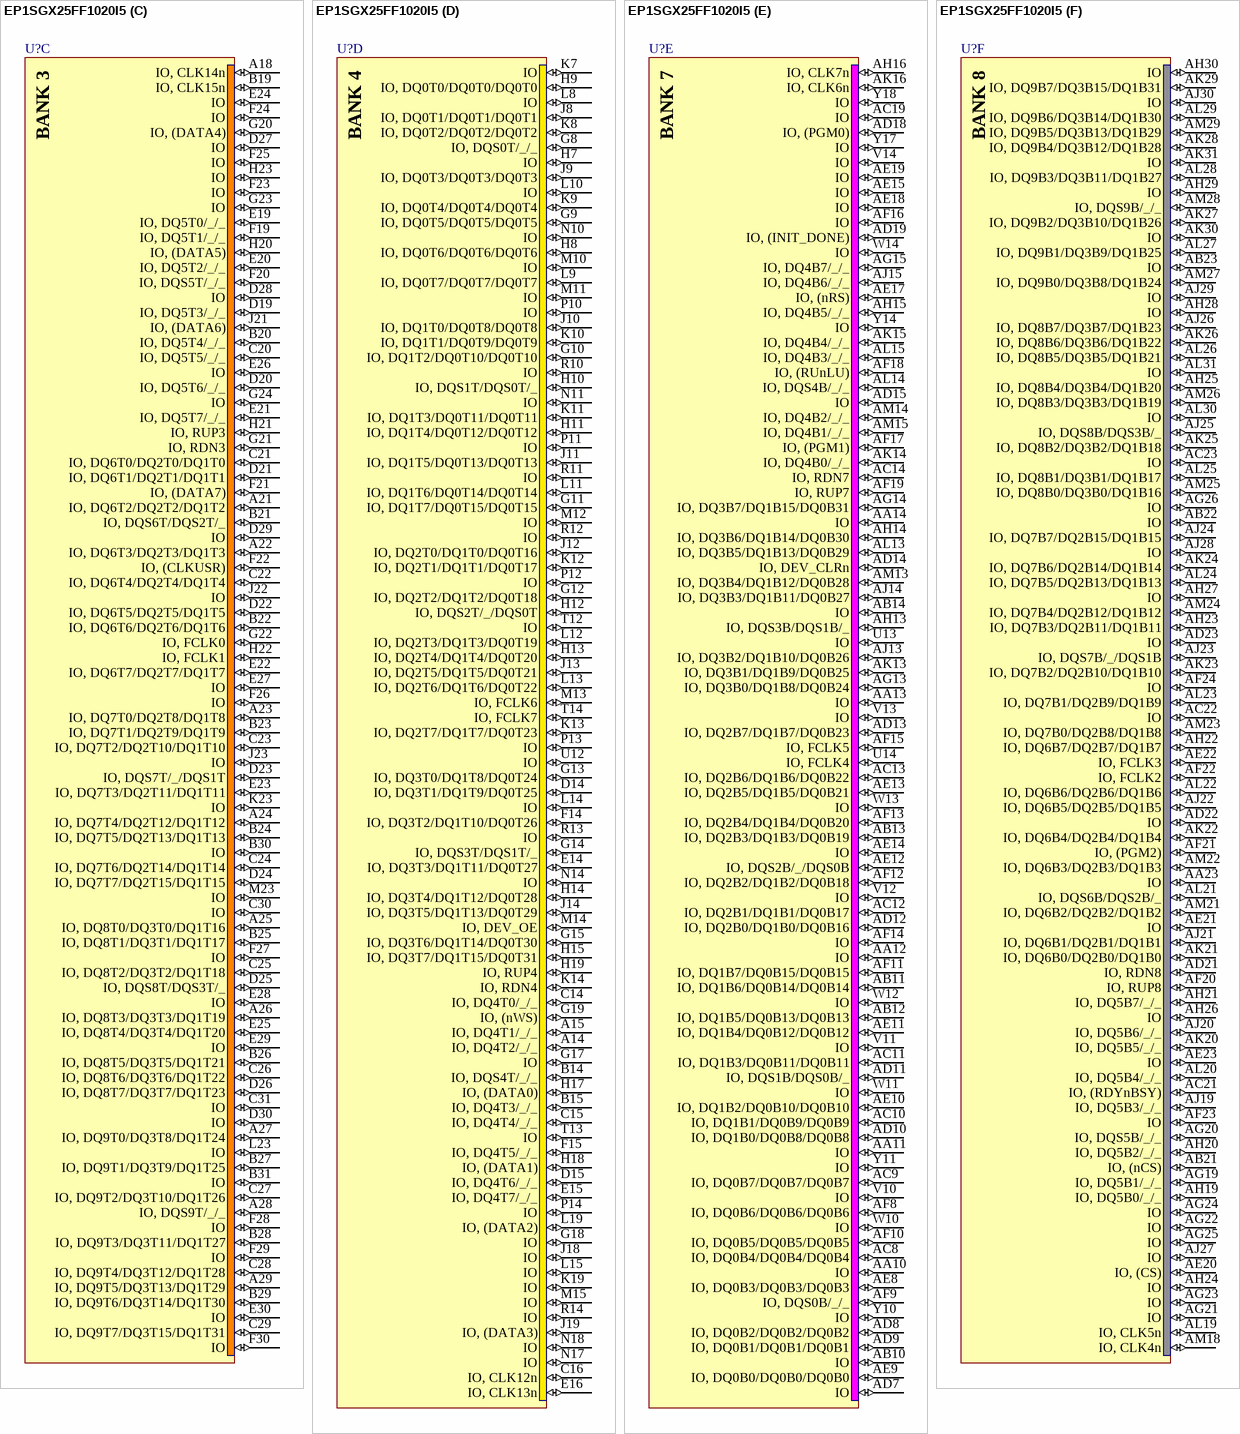
[diagram p159: symbol EP1SGX25FF1020I5]

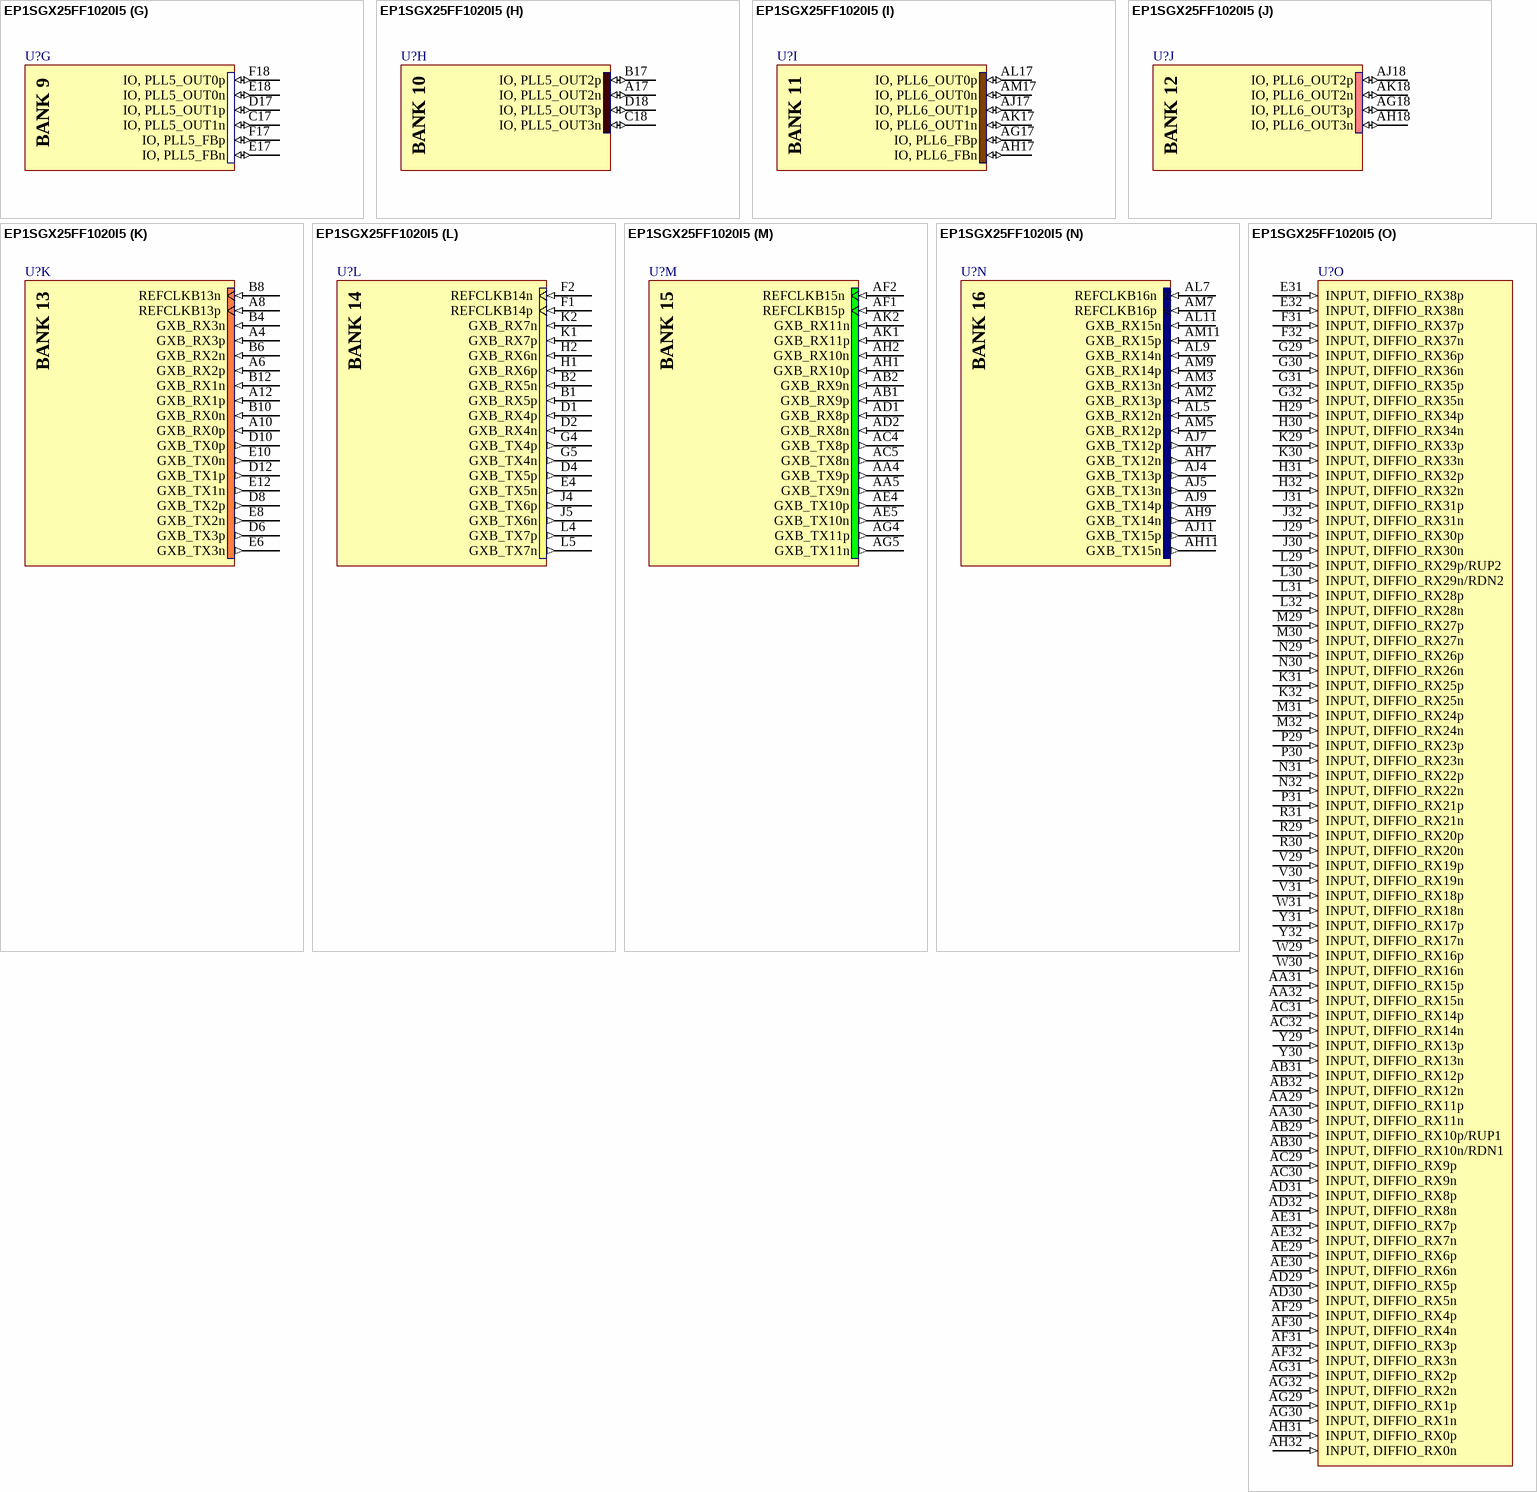
[diagram p160: symbol EP1SGX25FF1020I5]

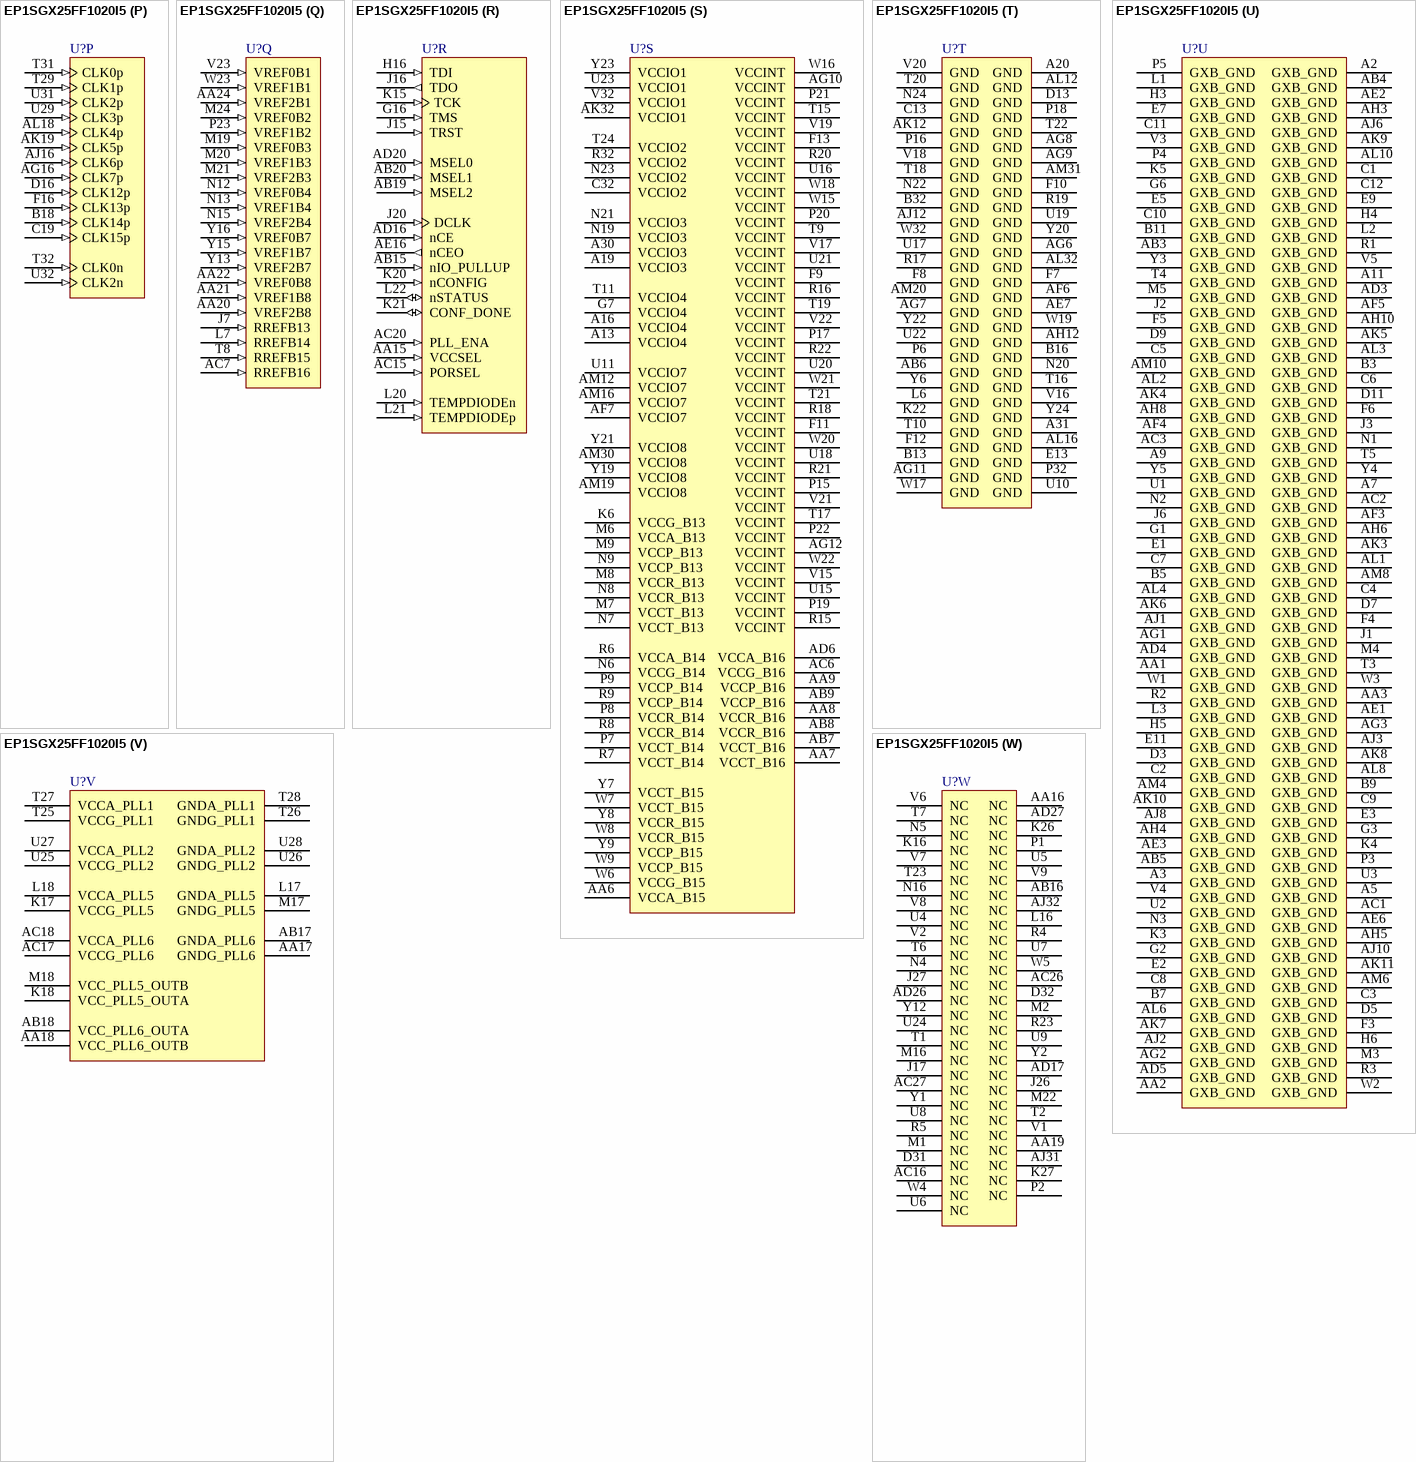
[diagram p161: symbol EP1SGX25FF1020I5]